# Altium schematic symbol library lib_protel_HC.SCHLIB: 494 symbols (part 3 of 4)
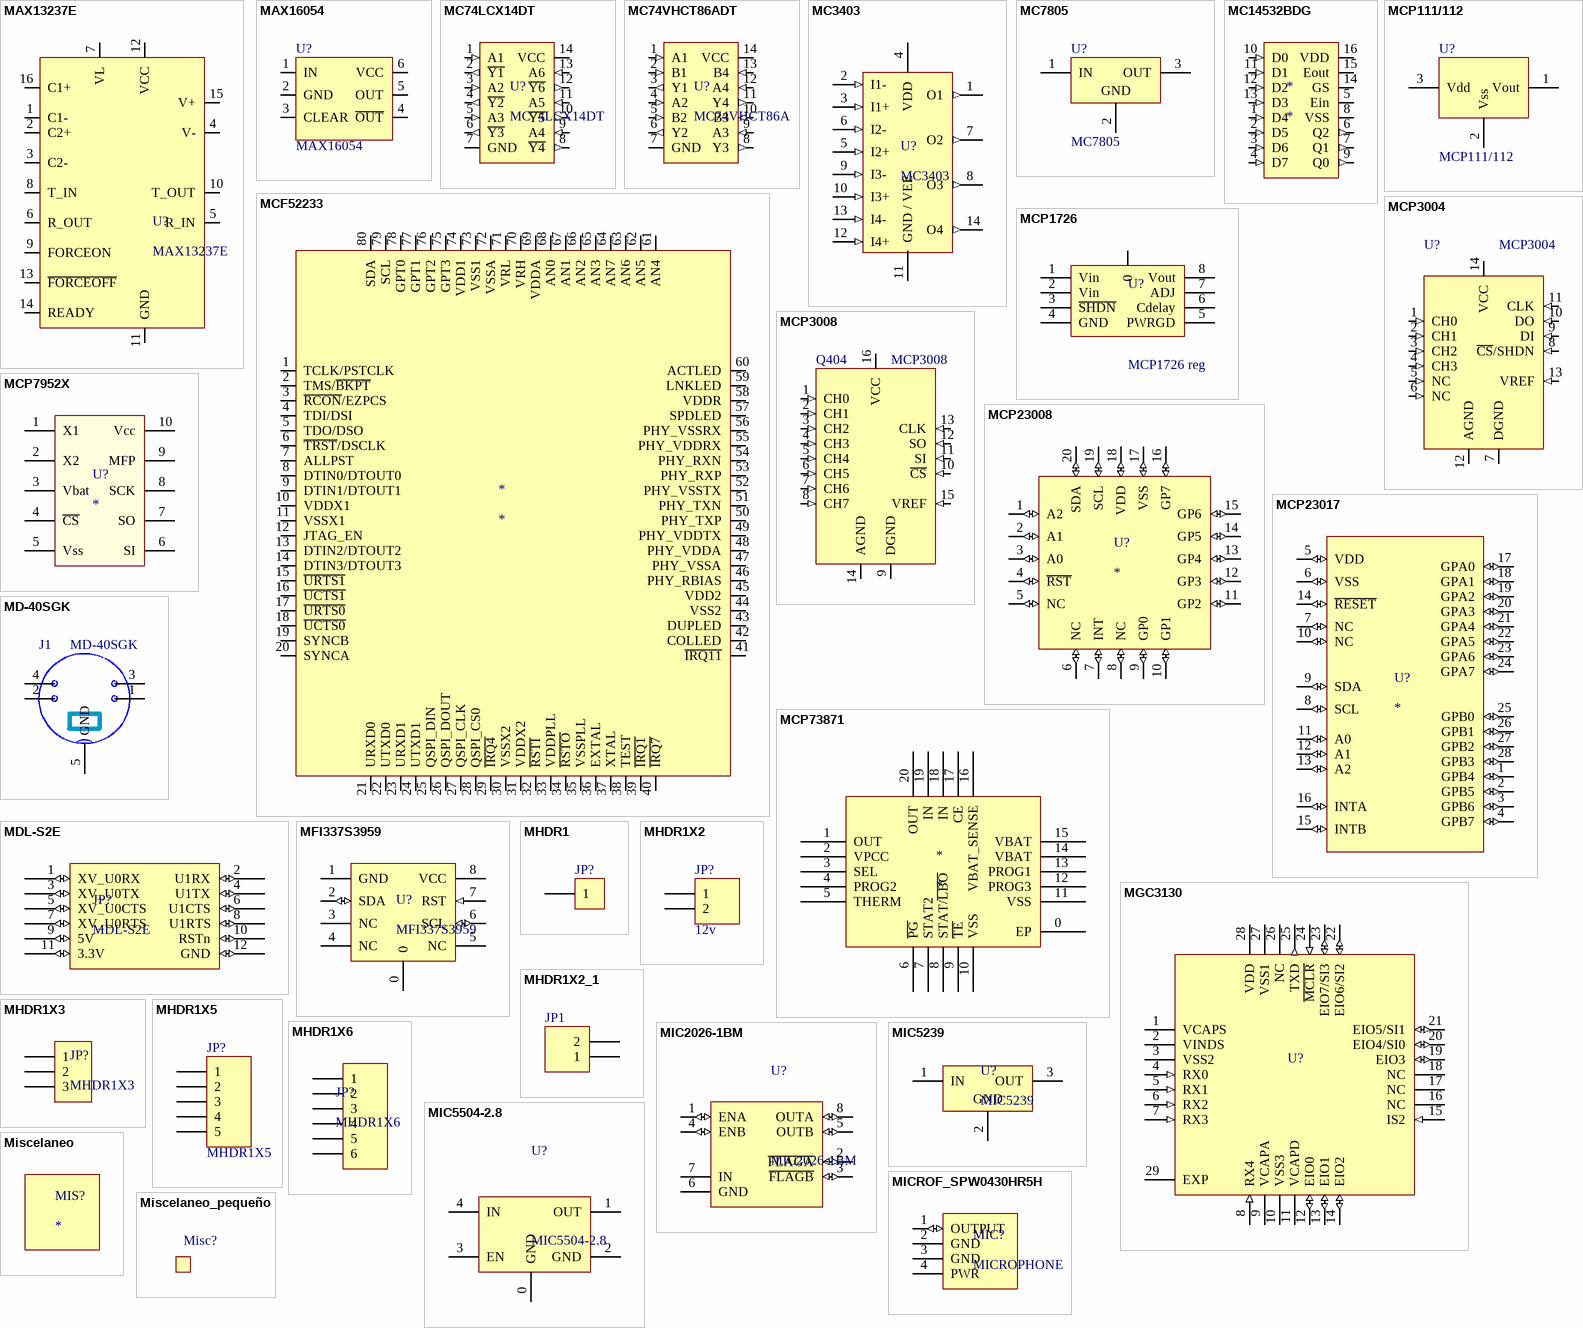
[diagram p23: symbols MAX13237E to Miscelaneo_pequeño]

## MIC5504-2.8
designator U?
LDO 2,3-5.5 to 3.0V; REF FABRICANTE: MIC5504-2.8YMT; FABRICANTE: MICREL; CÓDIGO FARNELL: *; CÓDIGO MOUSER: *; CODIGO DIGIKEY: 576-4307-1-ND; DISTRIBUIDOR 1: *; DISTRIBUIDOR 2: *
pins: 0 GND (power), 1 OUT, 2 GND (power), 3 EN, 4 IN

## MICROF_SPW0430HR5H
designator MIC?, comment MICROPHONE
CODIGO DIGIKEY: *; CODIGO MOUSER: *; CODIGO FARNELL: *; CODIGO PRODUCTO: *; DISTRIBUIDOR 1: *; DISTRIBUIDOR 2: *; FABRICANTE: *
pins: 1 OUTPUT (io), 2 GND (power), 3 GND (power), 4 PWR (power)

## Miscelaneo
designator MIS?
CODIGO DIGIKEY: *; CODIGO FARNELL: *; CODIGO MOUSER: *; REF_FABRICANTE: *; DISTRIBUIDOR1: *; DISTRIBUIDOR2: *; FABRICANTE: *; ComponentLink1Description: *; ComponentLink1URL: *

## Miscelaneo_pequeño
designator Misc?  (value not drawn)
CODIGO DIGIKEY: *; CODIGO FARNELL: *; CODIGO MOUSER: *; REF_FABRICANTE: *; DISTRIBUIDOR1: *; DISTRIBUIDOR2: *; FABRICANTE: *; ComponentLink1Description: *; ComponentLink1URL: *

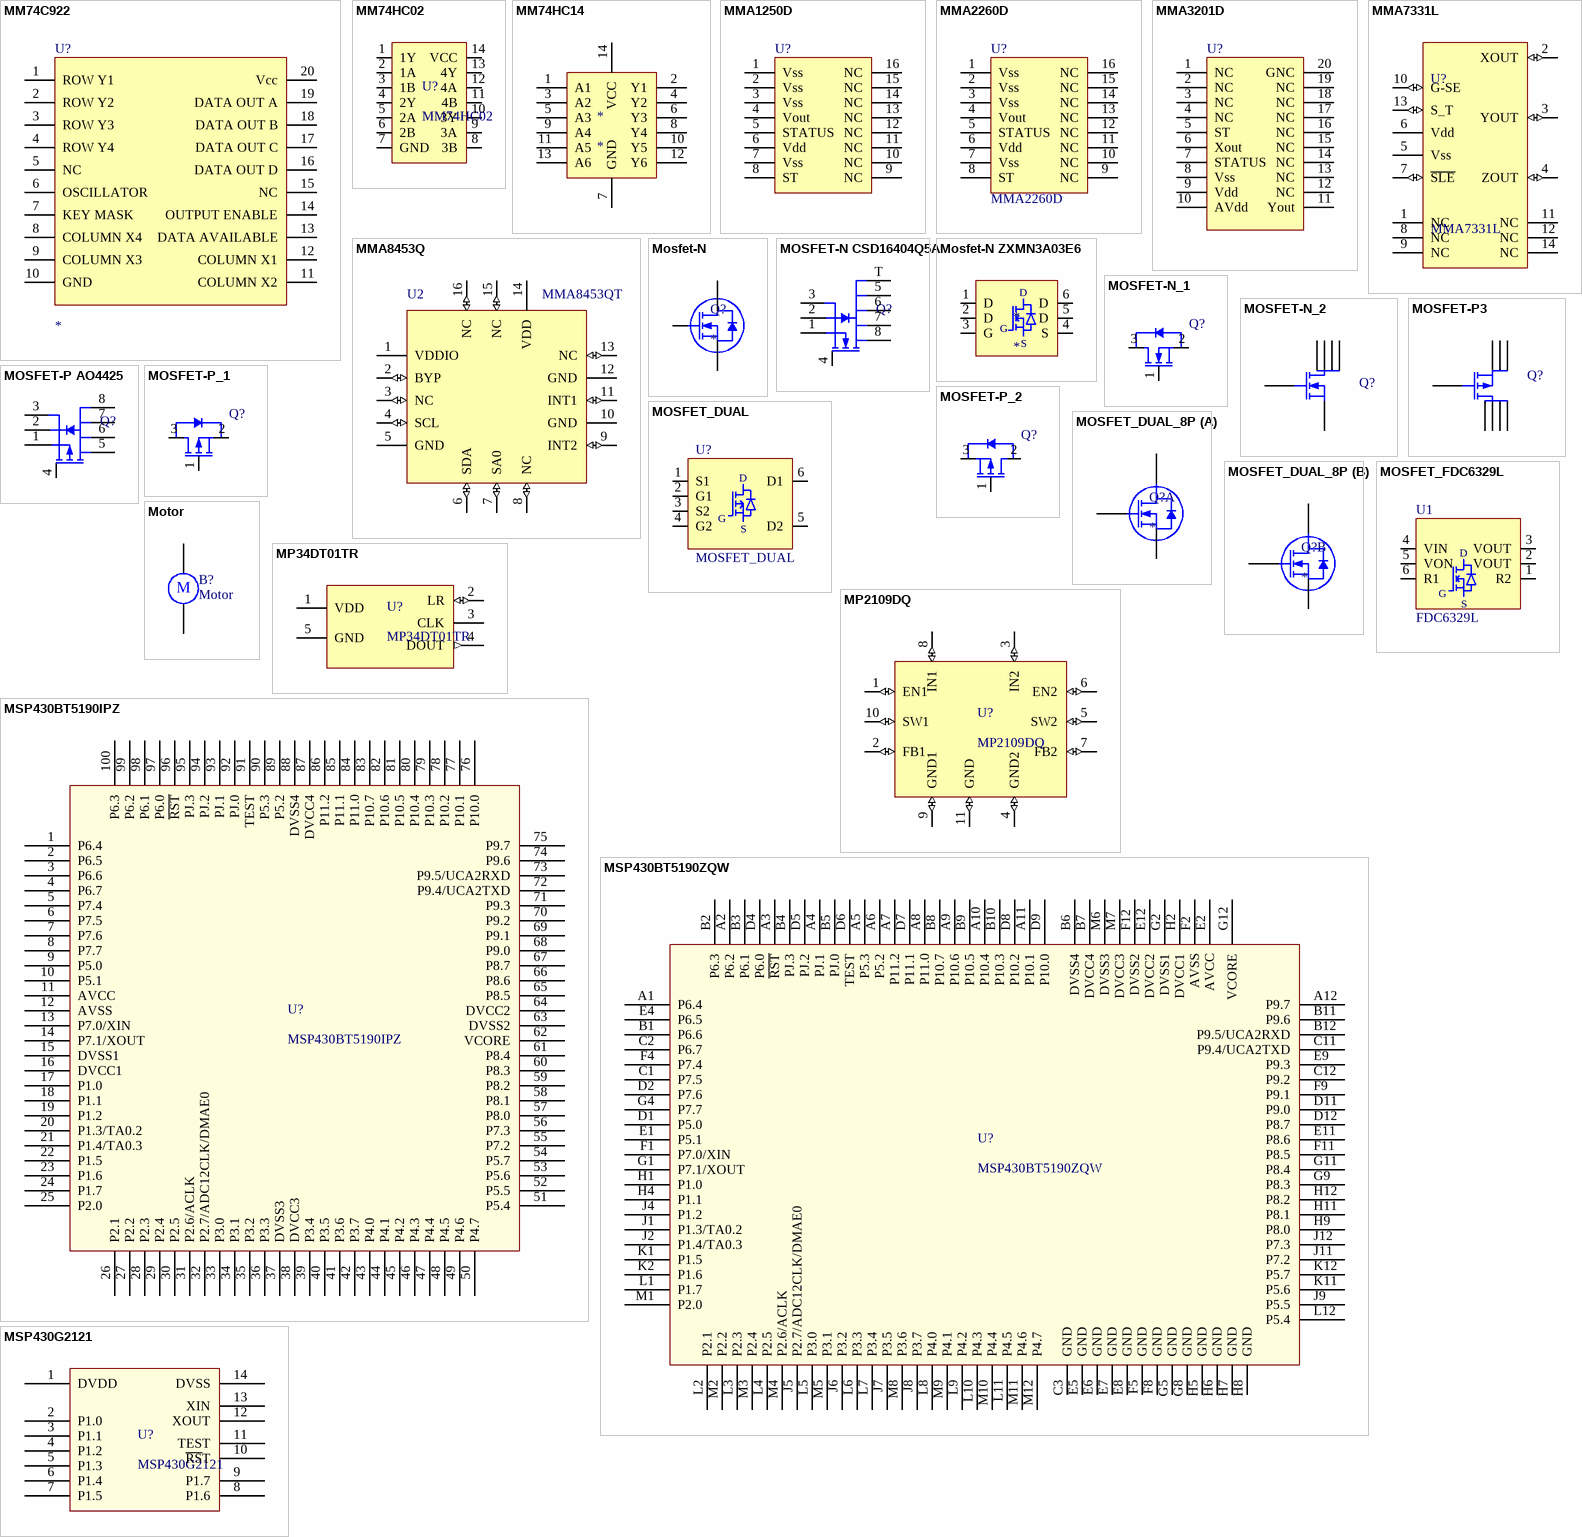
[diagram p12: symbols MM74C922 to MSP430G2121]

## MM74C922
designator U?
REF FARNELL: *
pins: 1 ROW Y1, 2 ROW Y2, 3 ROW Y3, 4 ROW Y4, 5 NC, 6 OSCILLATOR, 7 KEY MASK, 8 COLUMN X4, 9 COLUMN X3, 10 GND, 11 COLUMN X2, 12 COLUMN X1, 13 DATA AVAILABLE, 14 OUTPUT ENABLE, 15 NC, 16 DATA OUT D, 17 DATA OUT C, 18 DATA OUT B, 19 DATA OUT A, 20 Vcc

## MM74HC02
designator U?
Gate NOR 4 Outputs 2 Inputs; REF FABRICANTE: MM74HC02MX; REF. DIGIKEY: MM74HC02MXTR-ND
footprint SOIC-14
pins: 1 1Y, 2 1A, 3 1B, 4 2Y, 5 2A, 6 2B, 7 GND, 8 3B, 9 3A, 10 3Y, 11 4B, 12 4A, 13 4Y, 14 VCC

## MM74HC14
designator *
CODIGO FARNELL: *; PRECIO FARNELL: *
pins: 1 A1, 2 Y1, 3 A2, 4 Y2, 5 A3, 6 Y3, 7 GND, 8 Y4, 9 A4, 10 Y5, 11 A5, 12 Y6, 13 A6, 14 VCC

## MMA1250D
designator U?
pins: 1 Vss, 2 Vss, 3 Vss, 4 Vout, 5 STATUS, 6 Vdd, 7 Vss, 8 ST, 9 NC, 10 NC, 11 NC, 12 NC, 13 NC, 14 NC, 15 NC, 16 NC

## MMA2260D
designator U?
footprint MMA1250D (ACELERÓMETRO Z 5g)
pins: 1 Vss, 2 Vss, 3 Vss, 4 Vout, 5 STATUS, 6 Vdd, 7 Vss, 8 ST, 9 NC, 10 NC, 11 NC, 12 NC, 13 NC, 14 NC, 15 NC, 16 NC

## MMA3201D
designator U?
pins: 1 NC, 2 NC, 3 NC, 4 NC, 5 ST, 6 Xout, 7 STATUS, 8 Vss, 9 Vdd, 10 AVdd, 11 Yout, 12 NC, 13 NC, 14 NC, 15 NC, 16 NC, 17 NC, 18 NC, 19 NC, 20 GNC

## MMA7331L
designator U?
CODIGO PRODUCTO: MMA7331LT
footprint MMA7331L (ACELERÓMETRO 3 EJES MMA7331L)
pins: 1 NC, 2 XOUT (io), 3 YOUT (io), 4 ZOUT (io), 5 Vss (power), 6 Vdd (power), 7 ~{SLE} (io), 8 NC, 9 NC, 10 G-SE (io), 11 NC, 12 NC, 13 S_T (io), 14 NC

## MMA8453Q
designator U2, comment MMA8453QT
FABRICANTE: FREESCALE; DISTRIBUIDOR: FREESCALE; PRECIO 1: *; PRECIO 1000: *
footprint QFN-COL-16 (ACCELER_MMA8453Q)
footprint QFN-COL-16 (ACCELER_MMA8453Q)
pins: 1 VDDIO (power), 2 BYP (io), 3 NC (io), 4 SCL (io), 5 GND (power), 6 SDA (io), 7 SA0 (io), 8 NC (io), 9 INT2 (io), 10 GND (power), 11 INT1 (io), 12 GND (power), 13 NC (io), 14 VDD (power), 15 NC (io), 16 NC (io)

## Mosfet-N
designator Q?
Mosfet N-channel with diode; CODIGO DIGIKEY: *; CODIGO FARNELL: *; CODIGO MOUSER: *; DISTRIBUIDOR 1: *; DISTRIBUIDOR 2: *; FABRICANTE: *; REF_FABRICANTE: *; Rds On @ Vgs, Ids: *; ENCAPSULADO: *; Vdss: *; Vgs(th)@Id: *
pins: 1 G, 2 S, 3 D

## MOSFET-N CSD16404Q5A
designator Q?, comment CSD16404Q5A  (value not drawn)
N-Channel Power MOSFET; Note: Pin 2 is electrically connected to pin 4.; Published: 8-Jun-2000; LatestRevisionDate: 17-Jul-2002; LatestRevisionNote: Re-released for DXP Platform.; Publisher: Altium Limited; ComponentLink1Description: Manufacturer Link; FABRICANTE: *; PROVEEDOR: *; CODIGO FABRICANTE: *; CODIGO DIGIKEY: *; CODIGO FARNELL: *; DISTRIBUIDOR 1: *; DISTRIBUIDOR 2: *; CODIGO MOUSER: *
pins: 1 S (power), 2 S (power), 3 S (power), 4 G, 5 D (power), 6 D (power), 7 D (power), 8 D (power), T D (power)

## Mosfet-N ZXMN3A03E6
designator *
pins: 1 D, 2 D, 3 G, 4 S, 5 D, 6 D

## MOSFET-N_1
designator Q?, comment SI412  (value not drawn)
P-Channel Power MOSFET; Note: Pin 2 is electrically connected to pin 4.; Published: 8-Jun-2000; LatestRevisionDate: 17-Jul-2002; LatestRevisionNote: Re-released for DXP Platform.; Publisher: Altium Limited; ComponentLink1Description: Manufacturer Link; FABRICANTE: *; PROVEEDOR: *; CODIGO FABRICANTE: *; CODIGO DIGIKEY: *; CODIGO FARNELL: *; DISTRIBUIDOR 1: *; DISTRIBUIDOR 2: *; CODIGO MOUSER: *
pins: 1 G, 2 (power), 3 (power)

## MOSFET-N_2
designator Q?
N-Channel MOSFET; CODIGO MOUSER: *; CODIGO FARNELL: *; DISTRIBUIDOR 2: *
pins: 1 D, 2 D, 3 G, 4 S, 5 D, 6 D

## MOSFET-P3
designator Q?
P-Channel MOSFET; CODIGO FARNELL: *; CODIGO MOUSER: *; PROVEEDOR 2: *
pins: 1 S, 2 S, 3 S, 4 G, 5 D, 6 D, 7 D, 8 D

## MOSFET-P AO4425
designator Q?
P Channel Power MOSFET; Note: Pin 2 is electrically connected to pin 4.; Published: 8-Jun-2000; LatestRevisionDate: 17-Jul-2002; LatestRevisionNote: Re-released for DXP Platform.; Publisher: Altium Limited; ComponentLink1Description: Manufacturer Link; FABRICANTE: *; PROVEEDOR: *; CODIGO_FABRICANTE: *; CODIGO_DIGIKEY: *; CODIGO FARNELL: *; DISTRIBUIDOR 1: *; DISTRIBUIDOR 2: *; CODIGO MOUSER: *
pins: 1 S (power), 2 S (power), 3 S (power), 4 G, 5 D (power), 6 F (power), 7 8 (power), 8 D (power)

## MOSFET-P_1
designator Q?  (value not drawn)
P-Channel Power MOSFET; Note: Pin 2 is electrically connected to pin 4.; Published: 8-Jun-2000; LatestRevisionDate: 17-Jul-2002; LatestRevisionNote: Re-released for DXP Platform.; PackageReference: TO-220AB; Publisher: Altium Limited; ComponentLink1Description: Manufacturer Link; ComponentLink1URL: http://www.irf.com/; FABRICANTE: *; PROVEEDOR: *; CODIGO FABRICANTE: *; CODIGO DIGIKEY: *; CODIGO FARNELL: *; DISTRIBUIDOR 1: *; DISTRIBUIDOR 2: *; CODIGO MOUSER: *
pins: 1 G, 2 (power), 3 (power)

## MOSFET-P_2
designator Q?  (value not drawn)
P-Channel Power MOSFET; Note: Pin 2 is electrically connected to pin 4.; Published: 8-Jun-2000; LatestRevisionDate: 17-Jul-2002; LatestRevisionNote: Re-released for DXP Platform.; PackageReference: TO-220AB; Publisher: Altium Limited; ComponentLink1Description: Manufacturer Link; ComponentLink1URL: http://www.irf.com/; FABRICANTE: *; PROVEEDOR: *; CODIGO FABRICANTE: *; CODIGO DIGIKEY: *; CODIGO FARNELL: *; DISTRIBUIDOR 1: *; DISTRIBUIDOR 2: *; CODIGO MOUSER: *
pins: 1 G, 2 (power), 3 (power)

## MOSFET_DUAL
designator U?
pins: 1 S1, 2 G1, 3 S2, 4 G2, 5 D2, 6 D1
text: D; G; S

## MOSFET_DUAL_8P
designator Q?
Mosfet-N-2Channel; CODIGO DIGIKEY: *; CODIGO FARNELL: *; CODIGO MOUSER: *; REF_FABRICANTE: *; FABRICANTE: *; DISTRIBUIDOR 1: *; DISTRIBUIDOR 2: *; ComponentLink1Description: *; ComponentLink1URL: *; Rds On @ Vgs, Ids: *; Vgs(th)@Id: *; Vdss: *
part A pins: 1 S, 2 G, 6 D
part B pins: 3 S, 4 G, 5 D

## MOSFET_FDC6329L
designator U1, comment FDC6329L
FABRICANTE: FAIRCHILD; CODIGO DIGIKEY: FDC6329LCT-ND; CODIGO FARNELL: 1652469; PRECIO DIGIKEY 1: 0.53; PRECIO DIGIKEY 100: 0.3635; PRECIO DIGIKEY 1000: 0.21202; PRECIO DIGIKEY 3000: 0.17538; PRECIO FARNELL 1: 0.74; PRECIO FARNELL 1000: 0.24; STOCK FARNELL: 958; STOCK DIGIKEY: 2713
footprint SSOT-6
pins: 1 R2, 2 VOUT, 3 VOUT, 4 VIN, 5 VON, 6 R1
text: D; G; S

## Motor
designator B?
Motor, General Kind; Published: 24-Mar-1999; LatestRevisionDate: 17-Jul-2002; LatestRevisionNote: Re-released for DXP Platform.; PackageReference: RB5-10.5; Publisher: Altium Limited
footprint RB5-10.5 (Motor, General Kind; 2 Leads)
pins: 1, 2
text: M

## MP34DT01TR
designator U?
FABRICANTE: TI; CODIGO DIGIKEY: *; CODIGO FABRICANTE: *
pins: 1 VDD (power), 2 LR (io), 3 CLK (hiz), 4 DOUT (out), 5 GND (power)

## MP2109DQ
designator U?
FABRICANTE: *; CODIGO FABRICANTE: *; DISTRIBUIDOR: *; CODIGO DIGIKEY: *; VIN: *; VOUT: *; CORRIENTE: *; FOOTPRINT: *
pins: 1 EN1 (io), 2 FB1 (io), 3 IN2 (io), 4 GND2 (io), 5 SW2 (io), 6 EN2 (io), 7 FB2 (io), 8 IN1 (io), 9 GND1 (io), 10 SW1 (io), 11 GND (io)

## MSP430BT5190IPZ
designator U?
pins: 1 P6.4, 2 P6.5, 3 P6.6, 4 P6.7, 5 P7.4, 6 P7.5, 7 P7.6, 8 P7.7, 9 P5.0, 10 P5.1, 11 AVCC, 12 AVSS, 13 P7.0/XIN, 14 P7.1/XOUT, 15 DVSS1, 16 DVCC1, 17 P1.0, 18 P1.1, 19 P1.2, 20 P1.3/TA0.2, 21 P1.4/TA0.3, 22 P1.5, 23 P1.6, 24 P1.7, 25 P2.0, 26 P2.1, 27 P2.2, 28 P2.3, 29 P2.4, 30 P2.5, 31 P2.6/ACLK, 32 P2.7/ADC12CLK/DMAE0, 33 P3.0, 34 P3.1, 35 P3.2, 36 P3.3, 37 DVSS3, 38 DVCC3, 39 P3.4, 40 P3.5, 41 P3.6, 42 P3.7, 43 P4.0, 44 P4.1, 45 P4.2, 46 P4.3, 47 P4.4, 48 P4.5, 49 P4.6, 50 P4.7, 51 P5.4, 52 P5.5, 53 P5.6, 54 P5.7, 55 P7.2, 56 P7.3, 57 P8.0, 58 P8.1, 59 P8.2, 60 P8.3, 61 P8.4, 62 VCORE, 63 DVSS2, 64 DVCC2, 65 P8.5, 66 P8.6, 67 P8.7, 68 P9.0, 69 P9.1, 70 P9.2, 71 P9.3, 72 P9.4/UCA2TXD, 73 P9.5/UCA2RXD, 74 P9.6, 75 P9.7, 76 P10.0, 77 P10.1, 78 P10.2, 79 P10.3, 80 P10.4, 81 P10.5, 82 P10.6, 83 P10.7, 84 P11.0, 85 P11.1, 86 P11.2, 87 DVCC4, 88 DVSS4, 89 P5.2, 90 P5.3, 91 TEST, 92 PJ.0, 93 PJ.1, 94 PJ.2, 95 PJ.3, 96 ~{RST}, 97 P6.0, 98 P6.1, 99 P6.2, 100 P6.3

## MSP430BT5190ZQW
designator U?
pins: A1 P6.4, A2 P6.2, A3 ~{RST}, A4 PJ.1, A5 P5.3, A6 P5.2, A7 P11.2, A8 P11.0, A9 P10.6, A10 P10.4, A11 P10.1, A12 P9.7, B1 P6.6, B2 P6.3, B3 P6.1, B4 PJ.3, B5 PJ.0, B6 DVSS4, B7 DVCC4, B8 P10.7, B9 P10.5, B10 P10.3, B11 P9.6, B12 P9.5/UCA2RXD, C1 P7.5, C2 P6.7, C3 GND, C11 P9.4/UCA2TXD, C12 P9.2, D1 P5.0, D2 P7.6, D4 P6.0, D5 PJ.2, D6 TEST, D7 P11.1, D8 P10.2, D9 P10.0, D11 P9.0, D12 P8.7, E1 P5.1, E2 AVCC, E4 P6.5, E5 GND, E6 GND, E7 GND, E8 GND, E9 P9.3, E11 P8.6, E12 DVCC2, F1 P7.0/XIN, F2 AVSS, F4 P7.4, F5 GND, F8 GND, F9 P9.1, F11 P8.5, F12 DVSS2, G1 P7.1/XOUT, G2 DVSS1, G4 P7.7, G5 GND, G8 GND, G9 P8.3, G11 P8.4, G12 VCORE, H1 P1.0, H2 DVCC1, H4 P1.1, H5 GND, H6 GND, H7 GND, H8 GND, H9 P8.0, H11 P8.1, H12 P8.2, J1 P1.3/TA0.2, J2 P1.4/TA0.3, J4 P1.2, J5 P2.7/ADC12CLK/DMAE0, J6 P3.2, J7 P3.5, J8 P3.7, J9 P5.5, J11 P7.2, J12 P7.3, K1 P1.5, K2 P1.6, K11 P5.6, K12 P5.7, L1 P1.7, L2 P2.1, L3 P2.3, L4 P2.5, L5 P3.0, L6 P3.3, L7 P3.4, L8 P4.0, L9 P4.2, L10 P4.3, L11 P4.5, L12 P5.4, M1 P2.0, M2 P2.2, M3 P2.4, M4 P2.6/ACLK, M5 P3.1, M6 DVSS3, M7 DVCC3, M8 P3.6, M9 P4.1, M10 P4.4, M11 P4.6, M12 P4.7

## MSP430G2121
designator U?
pins: 1 DVDD, 2 P1.0, 3 P1.1, 4 P1.2, 5 P1.3, 6 P1.4, 7 P1.5, 8 P1.6, 9 P1.7, 10 ~{RS}T, 11 TEST, 12 XOUT, 13 XIN, 14 DVSS

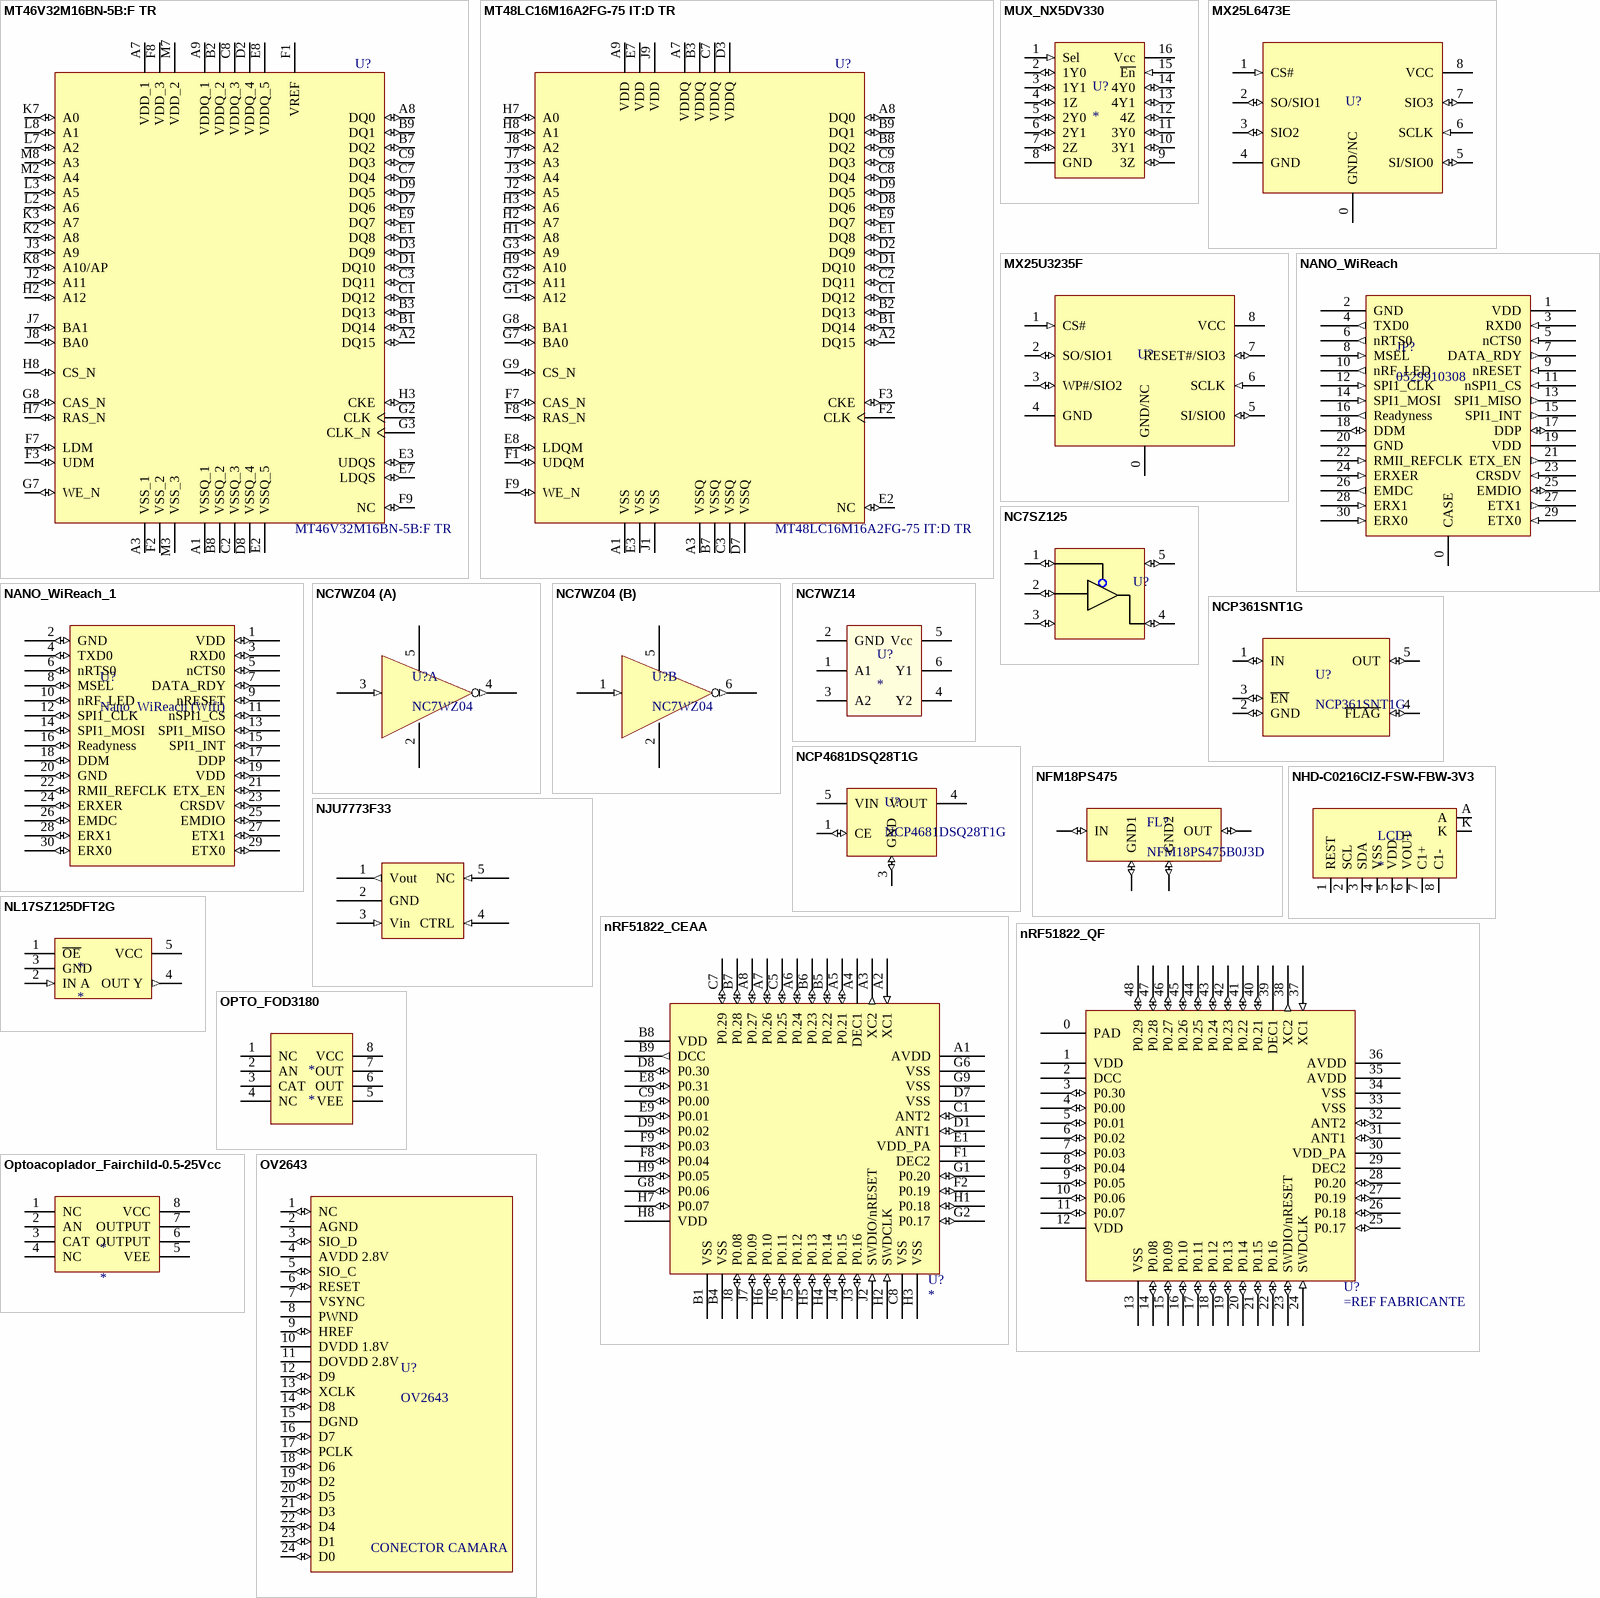
[diagram p13: symbols MT46V32M16BN-5B:F TR to OV2643]

## MT46V32M16BN-5B:F TR
designator U?
FABRICANTE: MICRON TECHNOLOGY INC.; DISTRIBUIDOR: *; CODIGO DIGIKEY: 557-1285-2-ND; PRECIO DIGIKEY: 5.15434
pins: A1 VSSQ_1 (power), A2 DQ15 (io), A3 VSS_1 (power), A7 VDD_1 (power), A8 DQ0 (io), A9 VDDQ_1 (power), B1 DQ14 (io), B2 VDDQ_2 (power), B3 DQ13 (io), B7 DQ2 (io), B8 VSSQ_2 (power), B9 DQ1 (io), C1 DQ12 (io), C2 VSSQ_3 (power), C3 DQ11 (io), C7 DQ4 (io), C8 VDDQ_3 (power), C9 DQ3 (io), D1 DQ10 (io), D2 VDDQ_4 (power), D3 DQ9 (io), D7 DQ6 (io), D8 VSSQ_4 (power), D9 DQ5 (io), E1 DQ8 (io), E2 VSSQ_5 (power), E3 UDQS (io), E7 LDQS (io), E8 VDDQ_5 (power), E9 DQ7 (io), F1 VREF (power), F2 VSS_2 (power), F3 UDM (io), F7 LDM (io), F8 VDD_3 (power), F9 NC (io), G2 CLK, G3 CLK_N, G7 WE_N (io), G8 CAS_N (io), H2 A12 (io), H3 CKE (io), H7 RAS_N (io), H8 CS_N (io), J2 A11 (io), J3 A9 (io), J7 BA1 (io), J8 BA0 (io), K2 A8 (io), K3 A7 (io), K7 A0 (io), K8 A10/AP (io), L2 A6 (io), L3 A5 (io), L7 A2 (io), L8 A1 (io), M2 A4 (io), M3 VSS_3 (power), M7 VDD_2 (power), M8 A3 (io)

## MT48LC16M16A2FG-75 IT:D TR
designator U?
FABRICANTE: MICRON TECHNOLOGY INC.; DISTRIBUIDOR: *; CODIGO DIGIKEY: 557-1056-1-ND; PRECIO DIGIKEY 1: 8.75
footprint FBGA-54 (FBGA para MEMORIA SDRAM 256 MICRON)
pins: A1 VSS (power), A2 DQ15 (io), A3 VSSQ (power), A7 VDDQ (power), A8 DQ0 (io), A9 VDD (power), B1 DQ14 (io), B2 DQ13 (io), B3 VDDQ (power), B7 VSSQ (power), B8 DQ2 (io), B9 DQ1 (io), C1 DQ12 (io), C2 DQ11 (io), C3 VSSQ (power), C7 VDDQ (power), C8 DQ4 (io), C9 DQ3 (io), D1 DQ10 (io), D2 DQ9 (io), D3 VDDQ (power), D7 VSSQ (power), D8 DQ6 (io), D9 DQ5 (io), E1 DQ8 (io), E2 NC (io), E3 VSS (power), E7 VDD (power), E8 LDQM (io), E9 DQ7 (io), F1 UDQM (io), F2 CLK, F3 CKE (io), F7 CAS_N (io), F8 RAS_N (io), F9 WE_N (io), G1 A12 (io), G2 A11 (io), G3 A9 (io), G7 BA0 (io), G8 BA1 (io), G9 CS_N (io), H1 A8 (io), H2 A7 (io), H3 A6 (io), H7 A0 (io), H8 A1 (io), H9 A10 (io), J1 VSS (power), J2 A5 (io), J3 A4 (io), J7 A3 (io), J8 A2 (io), J9 VDD (power)

## MUX_NX5DV330
designator U?
Multiplexor - demultiplexor video 8<->4; CODIGO DIGIKEY: *; CODIGO MOUSER: *; CODIGO FARNELL: *; DISTRIBUIDOR 1: *; DISTIRBUIDOR 2: *; ComponentLink1URL: *; ComponentLink1Description: *; FABRICANTE: *; REF_FABRICANTE: *
pins: 1 Sel (in), 2 1Y0 (io), 3 1Y1 (io), 4 1Z (io), 5 2Y0 (io), 6 2Y1 (io), 7 2Z (io), 8 GND (power), 9 3Z (io), 10 3Y1 (io), 11 3Y0 (io), 12 4Z (io), 13 4Y1 (io), 14 4Y0 (io), 15 ~{En} (in), 16 Vcc (power)

## MX25L6473E
designator U?  (value not drawn)
64MB FLASH MEMORY - 2.7-3.6V - SPI Serial; CODIGO DIGIKEY: *; CODIGO FARNELL: *; CODIGO MOUSER: *; FABRICANTE: *; REF_FABRICANTE: *; DISTRIBUIDOR 1: *; DISTRIBUIDOR 2: *; ComponentLink1URL: *; ComponentLink1Description: *
pins: 0 GND/NC (power), 1 CS# (in), 2 SO/SIO1 (io), 3 SIO2 (io), 4 GND (power), 5 SI/SIO0 (io), 6 SCLK (in), 7 SIO3 (io), 8 VCC (power)

## MX25U3235F
designator U?  (value not drawn)
32MB FLASH MEMORY -  1.65V~2V - SPI Serial; CODIGO DIGIKEY: *; CODIGO FARNELL: *; CODIGO MOUSER: *; FABRICANTE: *; REF_FABRICANTE: *; DISTRIBUIDOR 1: *; DISTRIBUIDOR 2: *; ComponentLink1URL: *; ComponentLink1Description: *
pins: 0 GND/NC (power), 1 CS# (in), 2 SO/SIO1 (io), 3 WP#/SIO2 (io), 4 GND (power), 5 SI/SIO0 (io), 6 SCLK (in), 7 RESET#/SIO3 (io), 8 VCC (power)

## NANO_WiReach
designator JP?, comment 0529910308
Conector 30 Pos para módulo WI-FI Nano_WiReach; FABRICANTE: Molex; CODIGO DIGIKEY: *; CODIGO FARNELL: *; DISTRIBUIDOR 1: *; REF_FABRICANTE: 0529910308; CODIGO MOUSER: *; DISTRIBUIDOR 2: *; ComponentLink1Description: *; ComponentLink1URL: *
footprint CONECTOR 30 pines WIFI (Conector para Nano WiReach)
pins: 0 CASE, 1 VDD (power), 2 GND (power), 3 RXD0 (in), 4 TXD0 (out), 5 nCTS0 (in), 6 nRTS0 (out), 7 DATA_RDY (out), 8 MSEL (in), 9 nRESET (in), 10 nRF_LED (out), 11 nSPI1_CS (in), 12 SPI1_CLK (in), 13 SPI1_MISO (out), 14 SPI1_MOSI (in), 15 SPI1_INT (out), 16 Readyness (out), 17 DDP (io), 18 DDM (io), 19 VDD (power), 20 GND (power), 21 ETX_EN (out), 22 RMII_REFCLK (in), 23 CRSDV (in), 24 ERXER (in), 25 EMDIO (io), 26 EMDC (out), 27 ETX1 (out), 28 ERX1 (in), 29 ETX0 (in), 30 ERX0 (in)

## NANO_WiReach_1
designator U?, comment Nano_WiReach (Wifi)
CODIGO DIGIKEY: *; CODIGO FARNELL: *; DISTRIBUIDOR: *; PRECIO DIGIKEY: *; CODIGO MOUSER: *; FABRICANTE: *
pins: 1 VDD (io), 2 GND (io), 3 RXD0 (io), 4 TXD0 (io), 5 nCTS0 (io), 6 nRTS0 (io), 7 DATA_RDY (io), 8 MSEL (io), 9 nRESET (io), 10 nRF_LED (io), 11 nSPI1_CS (io), 12 SPI1_CLK (io), 13 SPI1_MISO (io), 14 SPI1_MOSI (io), 15 SPI1_INT (io), 16 Readyness (io), 17 DDP (io), 18 DDM (io), 19 VDD (io), 20 GND (io), 21 ETX_EN (io), 22 RMII_REFCLK (io), 23 CRSDV (io), 24 ERXER (io), 25 EMDIO (io), 26 EMDC (io), 27 ETX1 (io), 28 ERX1 (io), 29 ETX0 (io), 30 ERX0 (io)

## NC7SZ125
designator U?
NC7SZ125; CODIGO FARNELL: *; CODIGO MOUSER: *; PROVEEDOR 2: *
pins: 1 (io), 2 (io), 3 (io), 4 (io), 5 (io)

## NC7WZ04
designator U?
Inversor dual; CODIGO FARNELL: *; CODIGO DIGIKEY: *; CODIGO MOUSER: *; DISTRIBUIDOR 1: *; DISTRIBUIDOR 2: *; ComponentLink1Description: *; ComponentLink1URL: *; FABRICANTE: *; REF_FABRICANTE: *
part A pins: 2 (power), 3 (in), 4 (out), 5 (power)
part B pins: 1 (in), 2 (power), 5 (power), 6 (out)

## NC7WZ14
designator U?
CODIGO DIGIKEY: *; CODIGO MOUSER: *; CODIGO FARNELL: *; FABRICANTE: *; REF_FABRICANTE: *; DSITRIBUIDOR1: *; DISTRIBUIDOR2: *
pins: 1 A1, 2 GND, 3 A2, 4 Y2, 5 Vcc, 6 Y1

## NCP361SNT1G
designator U?
CLASS: USB POSITIVE OVERVOLTAGE PROTECTION CONTROLLER; FABRICANTE: *; CODIGO DIGIKEY: *; CODIGO FABRICANTE: *; FOOTPRINT: *
pins: 1 IN (io), 2 GND (io), 3 ~{EN} (io), 4 ~{FLAG} (io), 5 OUT (io)

## NCP4681DSQ28T1G
designator U?
FABRICANTE: ON SEMI; CODIGO DIGIKEY: P4681DSQ28T1GOSTR-ND; CODIGO PRODUCTO: NCP4681DSQ28T1G
footprint SOT-353
pins: 1 CE (io), 3 GND (io), 4 VOUT (power), 5 VIN (power)

## NFM18PS475
designator FL?, comment NFM18PS475B0J3D
FABRICANTE: *; CODIGO FABRICANTE: *; DISTRIBUIDOR: *; CODIGO DIGIKEY: *; FOOTPRINT: *; CORRIENTE: *
pins: ?1 IN (io), ?2 GND1 (io), ?3 GND2 (io), ?4 OUT (io)

## NHD-C0216CIZ-FSW-FBW-3V3
designator LCD?
CODIGO DIGIKEY: NHD-C0216CIZ-FSW-FBW-3V3-ND; PRECIO DIGIKEY 1: *
footprint NHD-C0216CIZ-FSW-FBW-3V3 (DISPLAY I2C)
pins: 1 REST, 2 SCL, 3 SDA, 4 VSS, 5 VDD, 6 VOUT, 7 C1+, 8 C1-, A, K

## NJU7773F33
designator U?
Series 3-Terminal Positive Regulator; Manufacturer: National Semiconductor; Package Information: Latest Revision: 1995; Class I: Power Management; Class II: Voltage Regulator; Published: 15-Apr-2002; Datasheet: Latest Revision: May-1999; Publisher: Altium Limited; PRECIO FARNELL: *; CODIGO FARNELL: *; CODIGO DIGIKEY: *; CODIGO MOUSER: *
pins: 1 Vout (out), 2 GND, 3 Vin (in), 4 CTRL (in), 5 NC (in)

## NL17SZ125DFT2G
designator *
pins: 1 ~{OE}, 2 IN A (in), 3 GND, 4 OUT Y (out), 5 VCC

## nRF51822_CEAA
designator U?
Multi-protocol Bluetooth Low Energy and 2.4GHz proprietary system-on-chip; REF FABRICANTE: *; CODIGO FARNELL: *; CODIGO MOUSER: *; CODIGO DIGIKEY: *; FABRICANTE: *; DISTRIBUIDOR 1: *; DISTRIBUIDOR 2: *; ComponentLink1URL: *; ComponentLink1Description: *
pins: A1 AVDD (power), A2 XC1 (in), A3 XC2 (out), A4 DEC1 (power), A5 P0.21 (io), A6 P0.24 (io), A7 P0.26 (io), A8 P0.27 (io), B1 VSS (power), B4 VSS (power), B5 P0.22 (io), B6 P0.23 (io), B7 P0.28 (io), B8 VDD (power), B9 DCC (out), C1 ANT2 (io), C5 P0.25 (io), C6 N.C. (io) hidden, C7 P0.29 (io), C8 VSS (power), C9 P0.00 (io), D1 ANT1 (io), D7 VSS (power), D8 P0.30 (io), D9 P0.02 (io), E1 VDD_PA (power), E2 N.C. (io) hidden, E3 N.C. (io) hidden, E7 N.C. (io) hidden, E8 P0.31 (io), E9 P0.01 (io), F1 DEC2 (power), F2 P0.19 (io), F3 N.C. (io) hidden, F7 N.C. (io) hidden, F8 P0.04 (io), F9 P0.03 (io), G1 P0.20 (io), G2 P0.17 (io), G3 N.C. hidden to GND, G4 N.C. hidden to GND, G5 N.C. (io) hidden, G6 VSS (power), G7 N.C. (io) hidden, G8 P0.06 (io), G9 VSS (power), H1 P0.18 (io), H2 SWDCLK (in), H3 VSS (power), H4 P0.14 (io), H5 P0.13 (io), H6 P0.10 (io), H7 P0.07 (io), H8 VDD (power), H9 P0.05 (io), J2 SWDIO/nRESET (in), J3 P0.16 (io), J4 P0.15 (io), J5 P0.12 (io), J6 P0.11 (io), J7 P0.09 (io), J8 P0.08 (io)

## nRF51822_QF
designator U?
Multi-protocol Bluetooth Low Energy and 2.4GHz proprietary system-on-chip; REF_FABRICANTE: *; CODIGO FARNELL: *; CODIGO MOUSER: *; CODIGO DIGIKEY: *; FABRICANTE: *; DISTRIBUIDOR 1: *; DISTRIBUIDOR 2: *; ComponentLink1URL: *; ComponentLink1Description: *
pins: 0 PAD (power), 1 VDD (power), 2 DCC (power), 3 P0.30 (io), 4 P0.00 (io), 5 P0.01 (io), 6 P0.02 (io), 7 P0.03 (io), 8 P0.04 (io), 9 P0.05 (io), 10 P0.06 (io), 11 P0.07 (io), 12 VDD (power), 13 VSS (power), 14 P0.08 (io), 15 P0.09 (io), 16 P0.10 (io), 17 P0.11 (io), 18 P0.12 (io), 19 P0.13 (io), 20 P0.14 (io), 21 P0.15 (io), 22 P0.16 (io), 23 SWDIO/nRESET (io), 24 SWDCLK (in), 25 P0.17 (io), 26 P0.18 (io), 27 P0.19 (io), 28 P0.20 (io), 29 DEC2 (power), 30 VDD_PA (power), 31 ANT1 (io), 32 ANT2 (io), 33 VSS (power), 34 VSS (power), 35 AVDD (power), 36 AVDD (power), 37 XC1 (in), 38 XC2 (out), 39 DEC1 (power), 40 P0.21 (io), 41 P0.22 (io), 42 P0.23 (io), 43 P0.24 (io), 44 P0.25 (io), 45 P0.26 (io), 46 P0.27 (io), 47 P0.28 (io), 48 P0.29 (io)

## OPTO_FOD3180
designator *
pins: 1 NC, 2 AN, 3 CAT, 4 NC, 5 VEE, 6 OUT, 7 OUT, 8 VCC

## Optoacoplador_Fairchild-0.5-25Vcc
designator *
CODIGO FARNELL: *; PRECIO FARNELL: *
pins: 1 NC, 2 AN, 3 CAT, 4 NC, 5 VEE, 6 OUTPUT, 7 OUTPUT, 8 VCC

## OV2643
designator U?
CODIGO FABRICANTE: *
pins: 1 NC (io), 2 AGND (power), 3 SIO_D (io), 4 AVDD 2.8V (power), 5 SIO_C (io), 6 RESET (io), 7 VSYNC (power), 8 PWND (power), 9 HREF (io), 10 DVDD 1.8V (power), 11 DOVDD 2.8V (power), 12 D9 (io), 13 XCLK (io), 14 D8 (io), 15 DGND (power), 16 D7 (io), 17 PCLK (io), 18 D6 (io), 19 D2 (io), 20 D5 (io), 21 D3 (io), 22 D4 (io), 23 D1 (io), 24 D0 (io)
text: CONECTOR CAMARA

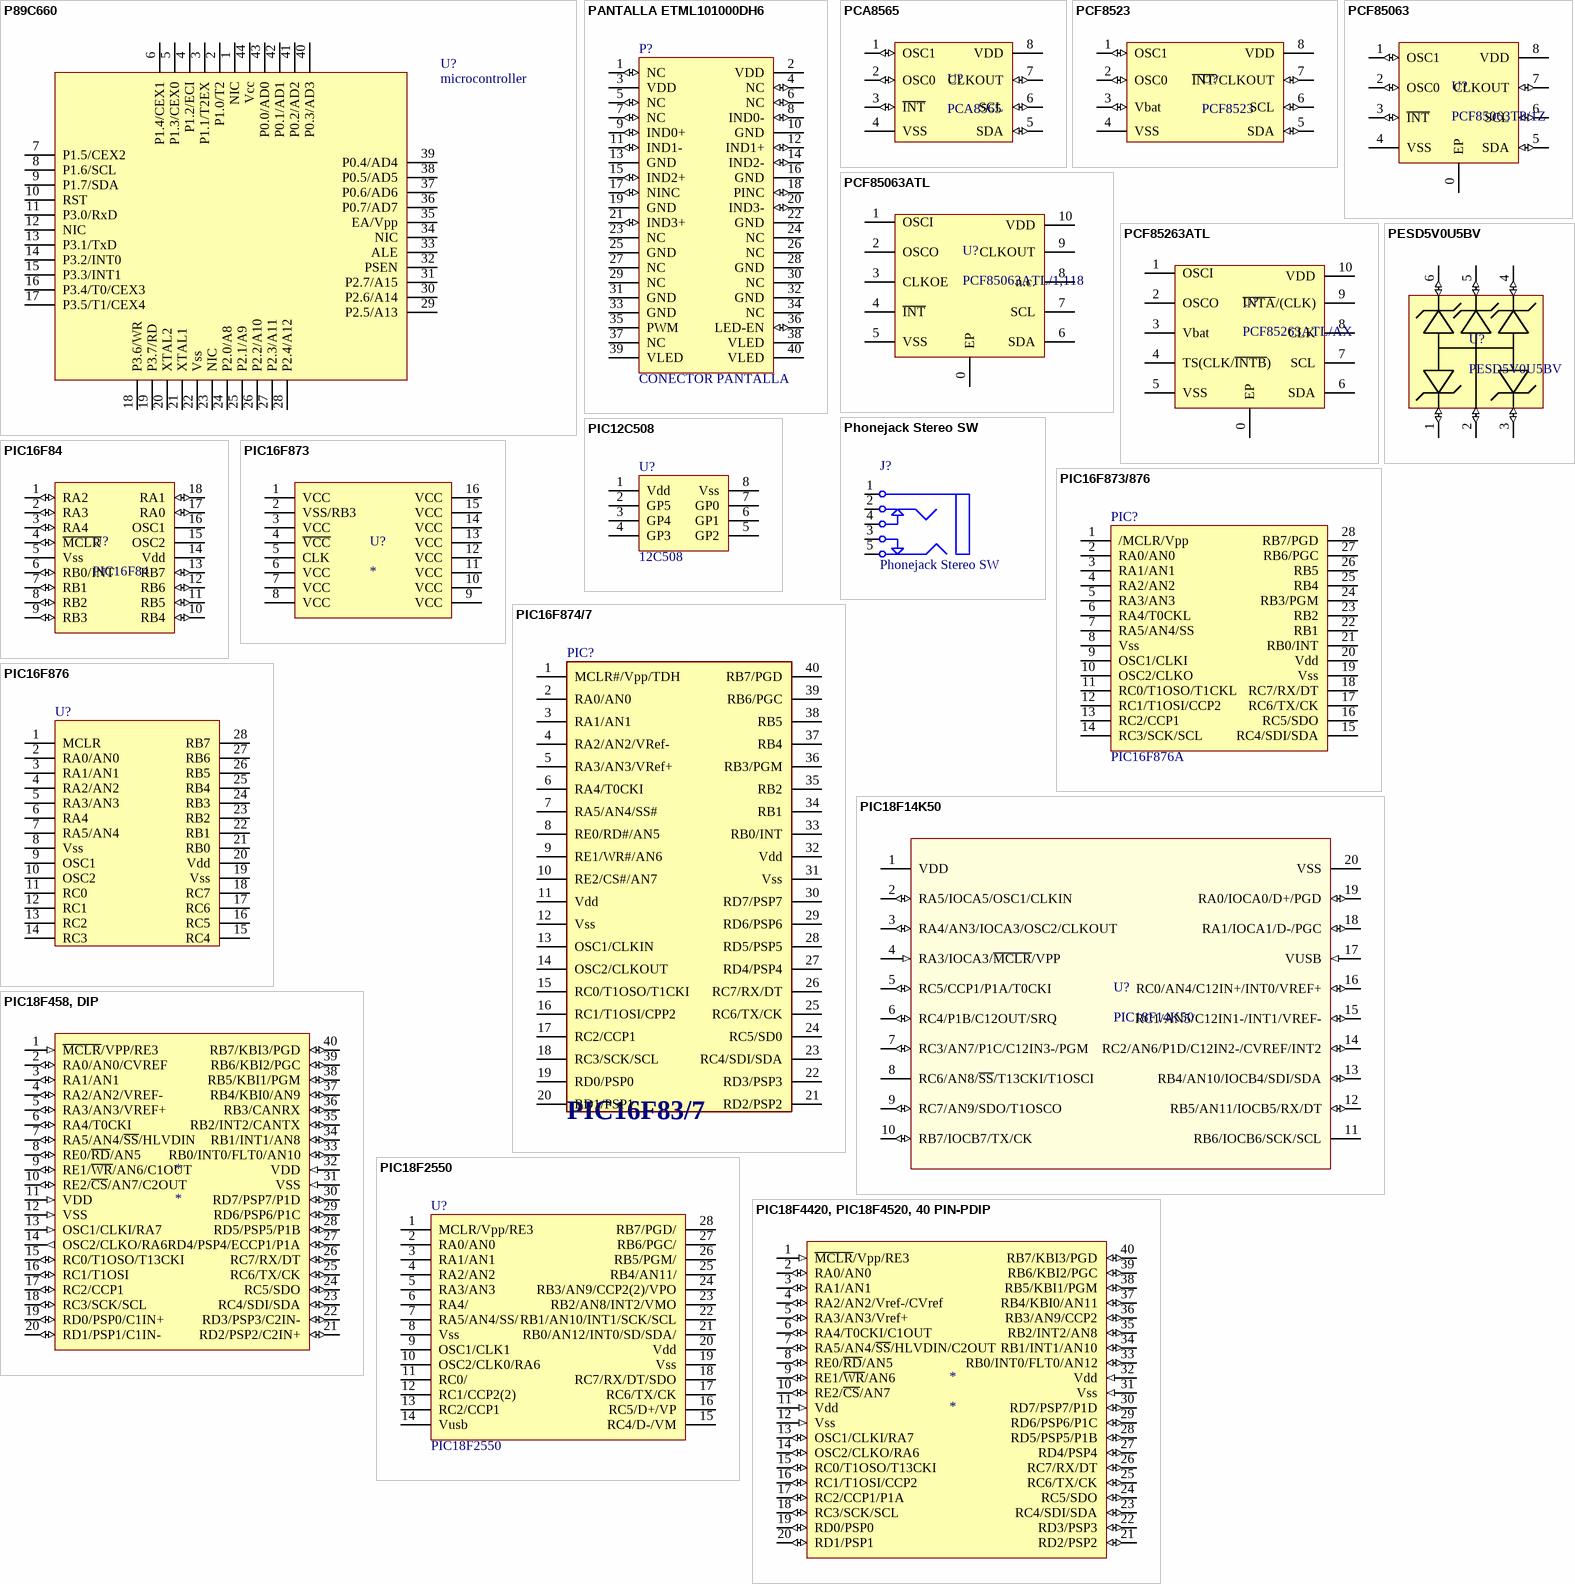
[diagram p14: symbols P89C660 to PIC18F4420, PIC18F4520, 40 PIN-PDIP]

## P89C660
designator U?, comment microcontroller
microcontroller philips 8 bits
footprint Model Name (Model Description)
pins: 1 NIC, 2 P1.0/T2, 3 P1.1/T2EX, 4 P1.2/ECI, 5 P1.3/CEX0, 6 P1.4/CEX1, 7 P1.5/CEX2, 8 P1.6/SCL, 9 P1.7/SDA, 10 RST, 11 P3.0/RxD, 12 NIC, 13 P3.1/TxD, 14 P3.2/INT0, 15 P3.3/INT1, 16 P3.4/T0/CEX3, 17 P3.5/T1/CEX4, 18 P3.6/WR, 19 P3.7/RD, 20 XTAL2, 21 XTAL1, 22 Vss, 23 NIC, 24 P2.0/A8, 25 P2.1/A9, 26 P2.2/A10, 27 P2.3/A11, 28 P2.4/A12, 29 P2.5/A13, 30 P2.6/A14, 31 P2.7/A15, 32 PSEN, 33 ALE, 34 NIC, 35 EA/Vpp, 36 P0.7/AD7, 37 P0.6/AD6, 38 P0.5/AD5, 39 P0.4/AD4, 40 P0.3/AD3, 41 P0.2/AD2, 42 P0.1/AD1, 43 P0.0/AD0, 44 Vcc

## PANTALLA ETML101000DH6
designator P?, comment CONECTOR PANTALLA
Header, 20-Pin, Dual row; LatestRevisionDate: 17-Jul-2002; LatestRevisionNote: Re-released for DXP Platform.; Publisher: Altium Limited; FABRICANTE: *; CODIGO FABRICANTE: *; CODIGO DIGIKEY: *; CODIGO FARNELL: *; CODIGO MOUSER: *; DISTRIBUIDOR 1: *; DISTRIBUIDOR 2: *
signal-integrity model Connector
pins: 1 NC (io), 2 VDD (power), 3 VDD (power), 4 NC (io), 5 NC (io), 6 NC (io), 7 NC (io), 8 IND0- (io), 9 IND0+ (io), 10 GND (power), 11 IND1- (io), 12 IND1+ (io), 13 GND (power), 14 IND2- (io), 15 IND2+ (io), 16 GND (power), 17 NINC (io), 18 PINC (io), 19 GND (power), 20 IND3- (io), 21 IND3+ (io), 22 GND (power), 23 NC, 24 NC, 25 GND (power), 26 NC, 27 NC, 28 GND (power), 29 NC, 30 NC, 31 GND (power), 32 GND (power), 33 GND (power), 34 NC, 35 PWM (power), 36 LED-EN (io), 37 NC, 38 VLED (power), 39 VLED (power), 40 VLED (power)

## PCA8565
designator U?
CODIGO FARNELL: *; CODIGO DIGIKEY: *; PRECIO FARNELL 1: *; PRECIO DIGIKEY 1: *; PRECIO FARNELL 100: *; PRECIO FARNELL 500: *; PRECIO FARNELL 1000: *; PRECIO DIGIKEY 100: *; PRECIO DIGIKEY 500: *; PRECIO DIGIKEY 1000: *
footprint TSSOP-8
pins: 1 OSC1 (io), 2 OSC0 (io), 3 ~{INT} (io), 4 VSS (power), 5 SDA (io), 6 SCL (io), 7 CLKOUT (io), 8 VDD (power)

## PCF8523
designator U?
CODIGO FARNELL: *; CODIGO DIGIKEY: *; PRECIO FARNELL 1: *; PRECIO DIGIKEY 1: *; PRECIO FARNELL 100: *; PRECIO FARNELL 500: *; PRECIO FARNELL 1000: *; PRECIO DIGIKEY 100: *; PRECIO DIGIKEY 500: *; PRECIO DIGIKEY 1000: *
footprint SOIC-8
pins: 1 OSC1 (io), 2 OSC0 (io), 3 Vbat (io), 4 VSS (power), 5 SDA (io), 6 SCL (io), 7 ~{INT}/CLKOUT (io), 8 VDD (power)

## PCF85063
designator U?, comment PCF85063TP/1Z
FABRICANTE: NXP USA Inc.; CODIGO FARNELL: *; CODIGO DIGIKEY: 568-10236-1-ND; CODIGO MOUSER: *; DISTRIBUIDOR1: *; DISTRIBUIDOR2: *; REF_FABRICANTE: PCF85063TP/1Z
footprint 8-HWSON (PCF85063TP/1Z)
pins: 0 EP, 1 OSC1 (io), 2 OSC0 (io), 3 ~{INT} (io), 4 VSS (power), 5 SDA (io), 6 SCL (io), 7 CLKOUT (io), 8 VDD (power)

## PCF85063ATL
designator U?, comment PCF85063ATL/1,118
FABRICANTE: NXP Semiconductors; CODIGO FARNELL: *; CODIGO DIGIKEY: 568-10235-1-ND; CODIGO MOUSER: *; REF_FABRICANTE: PCF85063ATL/1,118; DISTRIBUIDOR1: *; DISTRIBUIDOR2: *
footprint DFN-10
pins: 0 EP, 1 OSCI, 2 OSCO, 3 CLKOE, 4 ~{INT}, 5 VSS (power), 6 SDA, 7 SCL, 8 n.c. (power), 9 CLKOUT, 10 VDD (power)

## PCF85263ATL
designator U?, comment PCF85263ATL/AX
FABRICANTE: NXP Semiconductors; CODIGO FARNELL: *; CODIGO DIGIKEY: 568-11541-1-ND; CODIGO MOUSER: *; REF_FABRICANTE: PCF85263ATL/AX; DISTRIBUIDOR1: *; DISTRIBUIDOR2: *
footprint DFN-10
pins: 0 EP, 1 OSCI, 2 OSCO, 3 Vbat, 4 TS(CLK/~{INTB}) (power), 5 VSS (power), 6 SDA, 7 SCL, 8 CLK (power), 9 ~{INTA}/(CLK), 10 VDD (power)

## PESD5V0U5BV
designator U?
CODIGO MOUSER: *
pins: 1 (io), 2 (io), 3 (io), 4 (io), 5 (io), 6 (io)

## Phonejack Stereo SW
designator J?
3-Conductor Jack with 2 break contacts (normals) and 2 auxiliary make contacts; Published: 5-Jan-2004; LatestRevisionDate: 17-Dec-2003; LatestRevisionNote: PCB Footprint replaced.; DatasheetDocument: 07-Mar-2000; Publisher: Altium Limited; ComponentLink1Description: Manufacturer Link; ComponentLink1URL: http://domino.kycon.com/internet/Products.html; CODIGO FARNELL: *; CODIGO DIGIKEY: *; CODIGO MOUSER: *; CODIGO PRODUCTO: *; DISTRIBUIDOR 1: *; DISTRIBUIDOR 2: *
signal-integrity model Connector
pins: 1, 2, 3, 4, 5

## PIC12C508
designator U?, comment 12C508
footprint DIP-8
pins: 1 Vdd, 2 GP5, 3 GP4, 4 GP3, 5 GP2, 6 GP1, 7 GP0, 8 Vss

## PIC16F84
designator U?
CODIGO FARNELL: *; PRECIO FARNELL: *; CARACTERISTICAS: *
pins: 1 RA2 (io), 2 RA3 (io), 3 RA4 (io), 4 ~{MCLR} (io), 5 Vss, 6 RB0/INT (io), 7 RB1 (io), 8 RB2 (io), 9 RB3 (io), 10 RB4 (io), 11 RB5 (io), 12 RB6 (io), 13 RB7 (io), 14 Vdd, 15 OSC2, 16 OSC1, 17 RA0 (io), 18 RA1 (io)

## PIC16F873
designator U?
Microcontrolador PIC 16 bit; CODIGO_DIGIKEY: *; CODIGO_FARNELL: *; CODIGO_MOUSER: *; REFERENCIA_FABRICANTE: *; FABRICANTE: *; DISTRIBUIDOR_1: *; DISTRIBUIDOR_2: *
pins: 1 VCC, 2 VSS/RB3, 3 VCC, 4 ~{VCC}, 5 CLK, 6 VCC, 7 VCC, 8 VCC, 9 VCC, 10 VCC, 11 VCC, 12 VCC, 13 VCC, 14 VCC, 15 VCC, 16 VCC

## PIC16F873/876
designator PIC?, comment PIC16F876A
MCU 8 bit, 8 KB RAM, 5 AD 10 bit, SPI, I2C
footprint dip-28
pins: 1 /MCLR/Vpp, 2 RA0/AN0, 3 RA1/AN1, 4 RA2/AN2, 5 RA3/AN3, 6 RA4/T0CKL, 7 RA5/AN4/SS, 8 Vss, 9 OSC1/CLKI, 10 OSC2/CLKO, 11 RC0/T1OSO/T1CKL, 12 RC1/T1OSI/CCP2, 13 RC2/CCP1, 14 RC3/SCK/SCL, 15 RC4/SDI/SDA, 16 RC5/SDO, 17 RC6/TX/CK, 18 RC7/RX/DT, 19 Vss, 20 Vdd, 21 RB0/INT, 22 RB1, 23 RB2, 24 RB3/PGM, 25 RB4, 26 RB5, 27 RB6/PGC, 28 RB7/PGD

## PIC16F874/7
designator PIC?, comment PIC16F83/7
PIC16F874/7
footprint DIP40
pins: 1 MCLR#/Vpp/TDH, 2 RA0/AN0, 3 RA1/AN1, 4 RA2/AN2/VRef-, 5 RA3/AN3/VRef+, 6 RA4/T0CKI, 7 RA5/AN4/SS#, 8 RE0/RD#/AN5, 9 RE1/WR#/AN6, 10 RE2/CS#/AN7, 11 Vdd, 12 Vss, 13 OSC1/CLKIN, 14 OSC2/CLKOUT, 15 RC0/T1OSO/T1CKI, 16 RC1/T1OSI/CPP2, 17 RC2/CCP1, 18 RC3/SCK/SCL, 19 RD0/PSP0, 20 RD1/PSP1, 21 RD2/PSP2, 22 RD3/PSP3, 23 RC4/SDI/SDA, 24 RC5/SD0, 25 RC6/TX/CK, 26 RC7/RX/DT, 27 RD4/PSP4, 28 RD5/PSP5, 29 RD6/PSP6, 30 RD7/PSP7, 31 Vss, 32 Vdd, 33 RB0/INT, 34 RB1, 35 RB2, 36 RB3/PGM, 37 RB4, 38 RB5, 39 RB6/PGC, 40 RB7/PGD

## PIC16F876
designator U?
footprint DIP-28
pins: 1 MCLR, 2 RA0/AN0, 3 RA1/AN1, 4 RA2/AN2, 5 RA3/AN3, 6 RA4, 7 RA5/AN4, 8 Vss, 9 OSC1, 10 OSC2, 11 RC0, 12 RC1, 13 RC2, 14 RC3, 15 RC4, 16 RC5, 17 RC6, 18 RC7, 19 Vss, 20 Vdd, 21 RB0, 22 RB1, 23 RB2, 24 RB3, 25 RB4, 26 RB5, 27 RB6, 28 RB7

## PIC18F14K50
designator U?
PIC convertidor USB; FABRICANTE: Microchip; CODIGO_FARNELL: *; CODIGO_DIGIKEY: *; CODIGO_MOUSER: *; CODIGO_FABRICANTE: *; DISTRIBUIDOR1: *; DISTRIBUIDOR2: *
pins: 1 VDD, 2 RA5/IOCA5/OSC1/CLKIN (io), 3 RA4/AN3/IOCA3/OSC2/CLKOUT (io), 4 RA3/IOCA3/~{MCLR}/VPP (in), 5 RC5/CCP1/P1A/T0CKI (io), 6 RC4/P1B/C12OUT/SRQ (io), 7 RC3/AN7/P1C/C12IN3-/PGM (io), 8 RC6/AN8/~{SS}/T13CKI/T1OSCI, 9 RC7/AN9/SDO/T1OSCO (io), 10 RB7/IOCB7/TX/CK (io), 11 RB6/IOCB6/SCK/SCL, 12 RB5/AN11/IOCB5/RX/DT (io), 13 RB4/AN10/IOCB4/SDI/SDA (io), 14 RC2/AN6/P1D/C12IN2-/CVREF/INT2 (io), 15 RC1/AN5/C12IN1-/INT1/VREF- (io), 16 RC0/AN4/C12IN+/INT0/VREF+ (io), 17 VUSB (in), 18 RA1/IOCA1/D-/PGC (io), 19 RA0/IOCA0/D+/PGD (io), 20 VSS (power)

## PIC18F458, DIP
designator *
CODIGO FARNELL: *; PRECIO FARNELL: *
pins: 1 ~{MCLR}/VPP/RE3 (in), 2 RA0/AN0/CVREF (io), 3 RA1/AN1 (io), 4 RA2/AN2/VREF- (io), 5 RA3/AN3/VREF+ (io), 6 RA4/T0CKI (io), 7 RA5/AN4/~{SS}/HLVDIN (io), 8 RE0/~{RD}/AN5 (io), 9 RE1/~{WR}/AN6/C1OUT (io), 10 RE2/~{CS}/AN7/C2OUT (io), 11 VDD (in), 12 VSS (in), 13 OSC1/CLKI/RA7 (in), 14 OSC2/CLKO/RA6 (out), 15 RC0/T1OSO/T13CKI (io), 16 RC1/T1OSI (io), 17 RC2/CCP1 (io), 18 RC3/SCK/SCL (io), 19 RD0/PSP0/C1IN+ (io), 20 RD1/PSP1/C1IN- (io), 21 RD2/PSP2/C2IN+ (io), 22 RD3/PSP3/C2IN- (io), 23 RC4/SDI/SDA (io), 24 RC5/SDO (io), 25 RC6/TX/CK (io), 26 RC7/RX/DT (io), 27 RD4/PSP4/ECCP1/P1A (io), 28 RD5/PSP5/P1B (io), 29 RD6/PSP6/P1C (io), 30 RD7/PSP7/P1D (io), 31 VSS (in), 32 VDD (in), 33 RB0/INT0/FLT0/AN10 (io), 34 RB1/INT1/AN8 (io), 35 RB2/INT2/CANTX (io), 36 RB3/CANRX (io), 37 RB4/KBI0/AN9 (io), 38 RB5/KBI1/PGM (io), 39 RB6/KBI2/PGC (io), 40 RB7/KBI3/PGD (io)

## PIC18F2550
designator U?
footprint DIP-28
pins: 1 MCLR/Vpp/RE3, 2 RA0/AN0, 3 RA1/AN1, 4 RA2/AN2, 5 RA3/AN3, 6 RA4/, 7 RA5/AN4/SS/, 8 Vss, 9 OSC1/CLK1, 10 OSC2/CLK0/RA6, 11 RC0/, 12 RC1/CCP2(2), 13 RC2/CCP1, 14 Vusb, 15 RC4/D-/VM, 16 RC5/D+/VP, 17 RC6/TX/CK, 18 RC7/RX/DT/SDO, 19 Vss, 20 Vdd, 21 RB0/AN12/INT0/SD/SDA/, 22 RB1/AN10/INT1/SCK/SCL, 23 RB2/AN8/INT2/VMO, 24 RB3/AN9/CCP2(2)/VPO, 25 RB4/AN11/, 26 RB5/PGM/, 27 RB6/PGC/, 28 RB7/PGD/

## PIC18F4420, PIC18F4520, 40 PIN-PDIP
designator *
CODIGO FARNELL: *; CODIGO DIGIKEY: *; CODIGO MOUSER: *; REF_FABRICANTE: *; FABRICANTE: *; ComponentLink1Description: *; ComponentLink1URL: *; ENCAPSULADO: *; DISTRIBUIDOR 1: *; DISTRIBUIDOR 2: *
pins: 1 ~{MCLR}/Vpp/RE3 (in), 2 RA0/AN0 (io), 3 RA1/AN1 (io), 4 RA2/AN2/Vref-/CVref (io), 5 RA3/AN3/Vref+ (io), 6 RA4/T0CKI/C1OUT (io), 7 RA5/AN4/~{SS}/HLVDIN/C2OUT (io), 8 RE0/~{RD}/AN5 (io), 9 RE1/~{WR}/AN6 (io), 10 RE2/~{CS}/AN7 (io), 11 Vdd (in), 12 Vss (in), 13 OSC1/CLKI/RA7 (io), 14 OSC2/CLKO/RA6 (io), 15 RC0/T1OSO/T13CKI (io), 16 RC1/T1OSI/CCP2 (io), 17 RC2/CCP1/P1A (io), 18 RC3/SCK/SCL (io), 19 RD0/PSP0 (io), 20 RD1/PSP1 (io), 21 RD2/PSP2 (io), 22 RD3/PSP3 (io), 23 RC4/SDI/SDA (io), 24 RC5/SDO (io), 25 RC6/TX/CK (io), 26 RC7/RX/DT (io), 27 RD4/PSP4 (io), 28 RD5/PSP5/P1B (io), 29 RD6/PSP6/P1C (io), 30 RD7/PSP7/P1D (io), 31 Vss (in), 32 Vdd (in), 33 RB0/INT0/FLT0/AN12 (io), 34 RB1/INT1/AN10 (io), 35 RB2/INT2/AN8 (io), 36 RB3/AN9/CCP2 (io), 37 RB4/KBI0/AN11 (io), 38 RB5/KBI1/PGM (io), 39 RB6/KBI2/PGC (io), 40 RB7/KBI3/PGD (io)

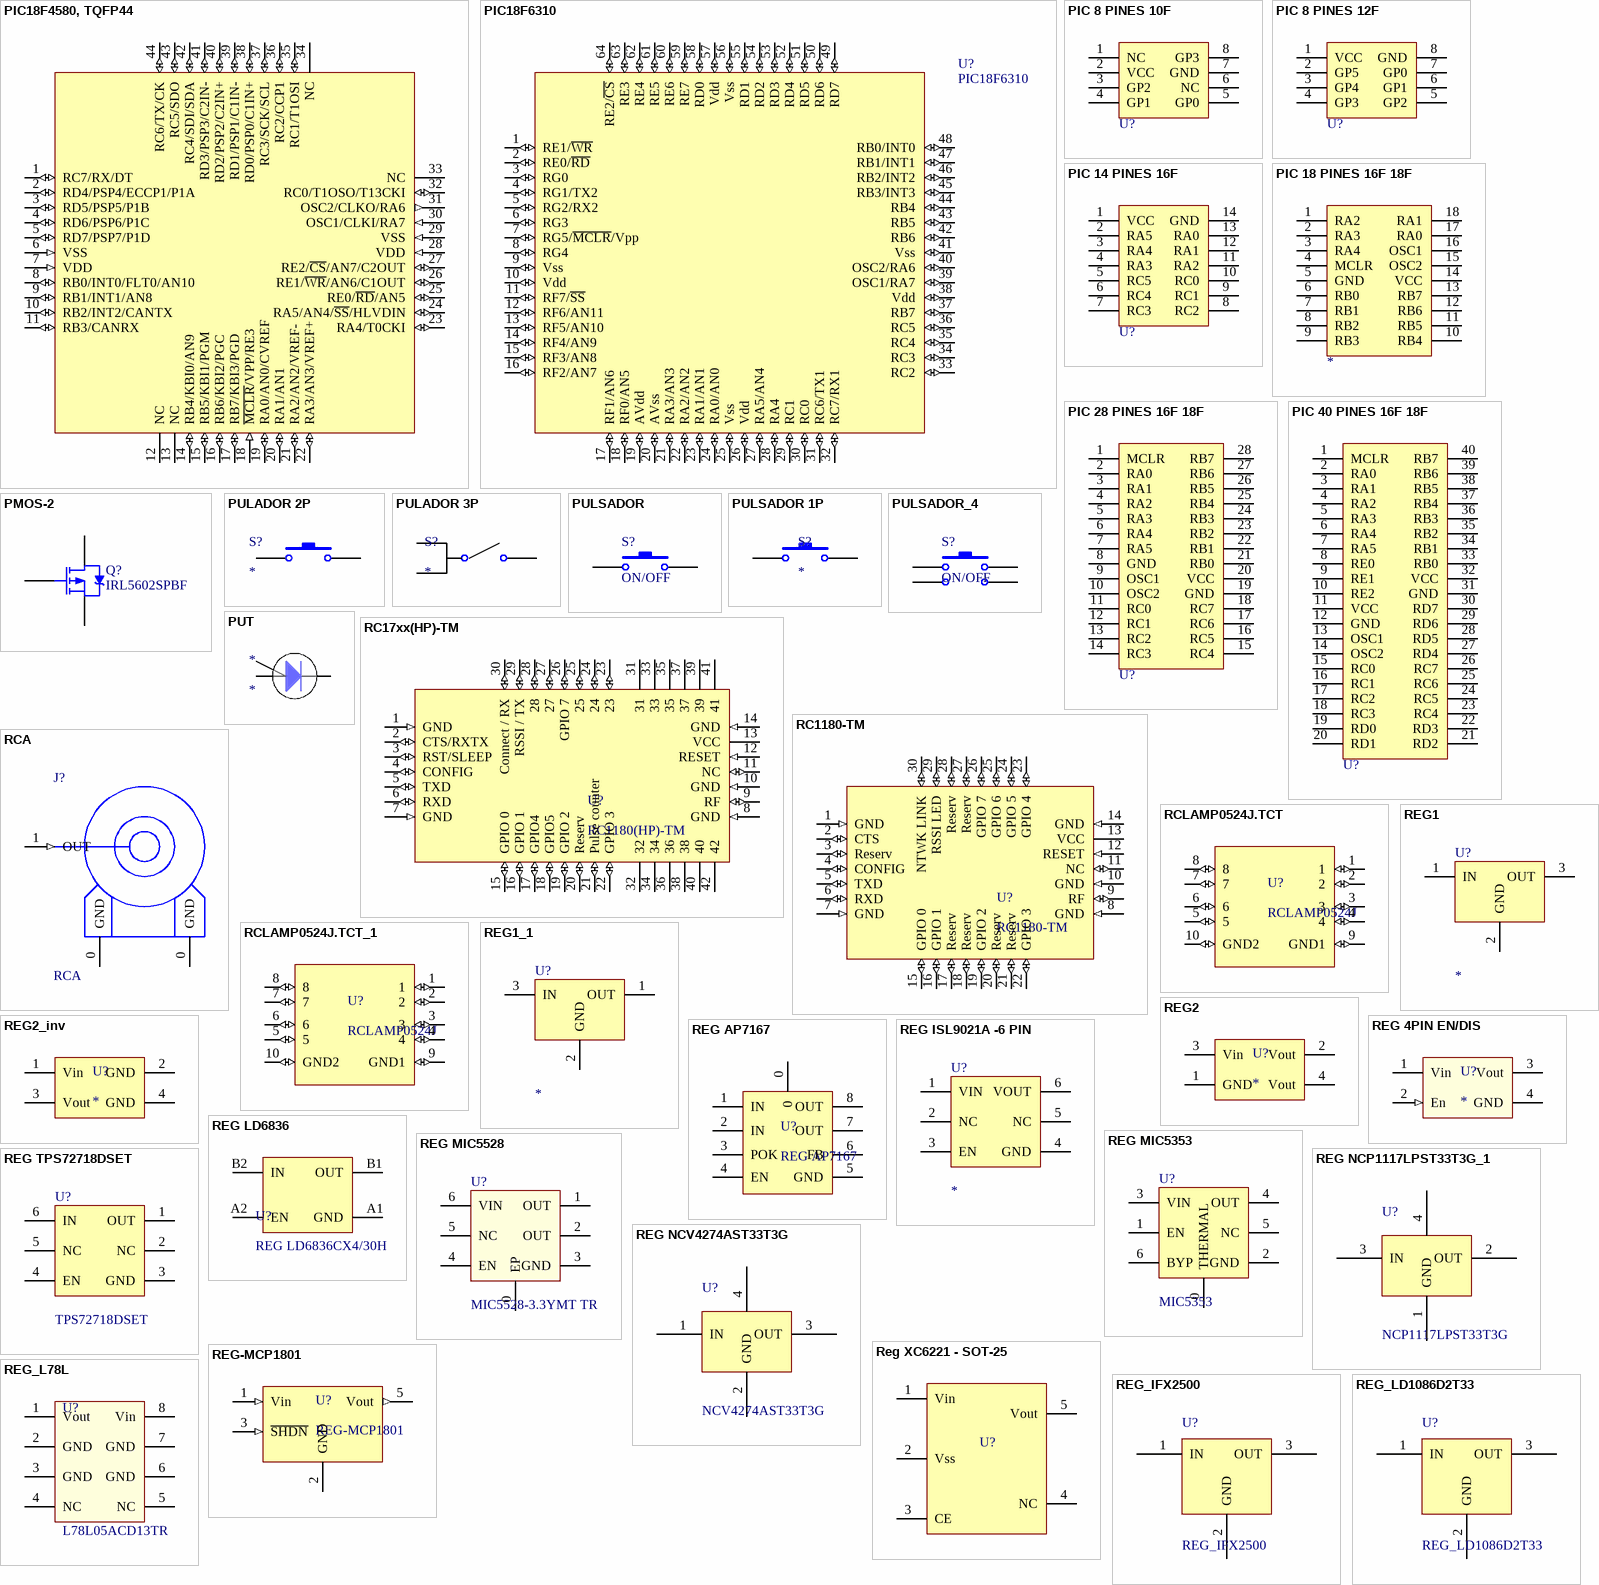
[diagram p15: symbols PIC18F4580, TQFP44 to REG_LD1086D2T33]

## PIC18F4580, TQFP44
designator *, comment PIC18F4580  (value not drawn)
EPROM-Based 8-Bit CMOS Microcontroller with A/D Converter; CODIGO FARNELL: *; PRECIO FARNELL: *
pins: 1 RC7/RX/DT (io), 2 RD4/PSP4/ECCP1/P1A (io), 3 RD5/PSP5/P1B (io), 4 RD6/PSP6/P1C (io), 5 RD7/PSP7/P1D (io), 6 VSS (in), 7 VDD (in), 8 RB0/INT0/FLT0/AN10 (io), 9 RB1/INT1/AN8 (io), 10 RB2/INT2/CANTX (io), 11 RB3/CANRX (io), 12 NC, 13 NC, 14 RB4/KBI0/AN9 (io), 15 RB5/KBI1/PGM (io), 16 RB6/KBI2/PGC (io), 17 RB7/KBI3/PGD (io), 18 ~{MCLR}/VPP/RE3 (in), 19 RA0/AN0/CVREF (io), 20 RA1/AN1 (io), 21 RA2/AN2/VREF- (io), 22 RA3/AN3/VREF+ (io), 23 RA4/T0CKI (io), 24 RA5/AN4/~{SS}/HLVDIN (io), 25 RE0/~{RD}/AN5 (io), 26 RE1/~{WR}/AN6/C1OUT (io), 27 RE2/~{CS}/AN7/C2OUT (io), 28 VDD (in), 29 VSS (in), 30 OSC1/CLKI/RA7 (in), 31 OSC2/CLKO/RA6 (out), 32 RC0/T1OSO/T13CKI (io), 33 NC, 34 NC, 35 RC1/T1OSI (io), 36 RC2/CCP1 (io), 37 RC3/SCK/SCL (io), 38 RD0/PSP0/C1IN+ (io), 39 RD1/PSP1/C1IN- (io), 40 RD2/PSP2/C2IN+ (io), 41 RD3/PSP3/C2IN- (io), 42 RC4/SDI/SDA (io), 43 RC5/SDO (io), 44 RC6/TX/CK (io)

## PIC18F6310
designator U?
footprint None Available
pins: 1 RE1/~{WR} (io), 2 RE0/~{RD} (io), 3 RG0 (io), 4 RG1/TX2 (io), 5 RG2/RX2 (io), 6 RG3 (io), 7 RG5/~{MCLR}/Vpp (io), 8 RG4 (io), 9 Vss (io), 10 Vdd (io), 11 RF7/~{SS} (io), 12 RF6/AN11 (io), 13 RF5/AN10 (io), 14 RF4/AN9 (io), 15 RF3/AN8 (io), 16 RF2/AN7 (io), 17 RF1/AN6 (io), 18 RF0/AN5 (io), 19 AVdd (io), 20 AVss (io), 21 RA3/AN3 (io), 22 RA2/AN2 (io), 23 RA1/AN1 (io), 24 RA0/AN0 (io), 25 Vss (io), 26 Vdd (io), 27 RA5/AN4 (io), 28 RA4 (io), 29 RC1 (io), 30 RC0 (io), 31 RC6/TX1 (io), 32 RC7/RX1 (io), 33 RC2 (io), 34 RC3 (io), 35 RC4 (io), 36 RC5 (io), 37 RB7 (io), 38 Vdd (io), 39 OSC1/RA7 (io), 40 OSC2/RA6 (io), 41 Vss (io), 42 RB6 (io), 43 RB5 (io), 44 RB4 (io), 45 RB3/INT3 (io), 46 RB2/INT2 (io), 47 RB1/INT1 (io), 48 RB0/INT0 (io), 49 RD7 (io), 50 RD6 (io), 51 RD5 (io), 52 RD4 (io), 53 RD3 (io), 54 RD2 (io), 55 RD1 (io), 56 Vss (io), 57 Vdd (io), 58 RD0 (io), 59 RE7 (io), 60 RE6 (io), 61 RE5 (io), 62 RE4 (io), 63 RE3 (io), 64 RE2/~{CS} (io)

## PIC 8 PINES 10F
designator U?, comment PICS DE 8 PINES  (value not drawn)
footprint DIP-8
pins: 1 NC, 2 VCC, 3 GP2, 4 GP1, 5 GP0, 6 NC, 7 GND, 8 GP3

## PIC 8 PINES 12F
designator U?  (value not drawn)
footprint DIP-8
pins: 1 VCC, 2 GP5, 3 GP4, 4 GP3, 5 GP2, 6 GP1, 7 GP0, 8 GND

## PIC 14 PINES 16F
designator U?  (value not drawn)
footprint DIP-14
pins: 1 VCC, 2 RA5, 3 RA4, 4 RA3, 5 RC5, 6 RC4, 7 RC3, 8 RC2, 9 RC1, 10 RC0, 11 RA2, 12 RA1, 13 RA0, 14 GND

## PIC 18 PINES 16F 18F
designator *, comment PIC 14 PINES 16F 18F  (value not drawn)
footprint DIP-18
pins: 1 RA2, 2 RA3, 3 RA4, 4 MCLR, 5 GND, 6 RB0, 7 RB1, 8 RB2, 9 RB3, 10 RB4, 11 RB5, 12 RB6, 13 RB7, 14 VCC, 15 OSC2, 16 OSC1, 17 RA0, 18 RA1

## PIC 28 PINES 16F 18F
designator U?  (value not drawn)
footprint DIP-28
pins: 1 MCLR, 2 RA0, 3 RA1, 4 RA2, 5 RA3, 6 RA4, 7 RA5, 8 GND, 9 OSC1, 10 OSC2, 11 RC0, 12 RC1, 13 RC2, 14 RC3, 15 RC4, 16 RC5, 17 RC6, 18 RC7, 19 GND, 20 VCC, 21 RB0, 22 RB1, 23 RB2, 24 RB3, 25 RB4, 26 RB5, 27 RB6, 28 RB7

## PIC 40 PINES 16F 18F
designator U?  (value not drawn)
footprint DIP-40
pins: 1 MCLR, 2 RA0, 3 RA1, 4 RA2, 5 RA3, 6 RA4, 7 RA5, 8 RE0, 9 RE1, 10 RE2, 11 VCC, 12 GND, 13 OSC1, 14 OSC2, 15 RC0, 16 RC1, 17 RC2, 18 RC3, 19 RD0, 20 RD1, 21 RD2, 22 RD3, 23 RC4, 24 RC5, 25 RC6, 26 RC7, 27 RD4, 28 RD5, 29 RD6, 30 RD7, 31 GND, 32 VCC, 33 RB0, 34 RB1, 35 RB2, 36 RB3, 37 RB4, 38 RB5, 39 RB6, 40 RB7

## PMOS-2
designator Q?, comment IRL5602SPBF
P-Channel Power MOSFET; Manufacturer: Generic Components; Class I: Discrete; Class II: MOSFET - Power; Note: Pin 4 not drawn and electrically connected to Pin 2.; PRECIO: 1.063; Published: 8-Jun-2000; Revision: July-2002: Re-released for DXP Platform.; Datasheet: Latest Revision: PD-9.390D; Package Reference: TO-220AB; Publisher: Altium Limited; FARNELL: 3915815
footprint SFM-T3/A4.7V (TO-220AB)
simulation model IRF9510 (Spice Subcircuit)
footprint TO-263AB (IRL5602S)
pins: 1 G, 2 D, 3 S

## PULADOR 2P
designator S?
Pulsador 2Pin; CODIGO DIGIKEY: *; CODIGO FARNELL: *; CODIGO MOUSER: *; ComponentLink1Description: *; Componentlink1URL: *; FABRICANTE: *; REF_FABRICANTE: *; DISTRIBUIDOR 1: *; DISTRIBUIDOR 2: *
pins: 1, 2

## PULADOR 3P
designator S?
Pulsador 3Pin; CODIGO DIGIKEY: *; CODIGO FARNELL: *; CODIGO MOUSER: *; ComponentLink1Description: *; Componentlink1URL: *; FABRICANTE: *; REF_FABRICANTE: *; DISTRIBUIDOR 1: *; DISTRIBUIDOR 2: *
pins: 1, 2, 3

## PULSADOR
designator S?, comment ON/OFF
Switch; Manufacturer: Generic Components; Published: 24-Mar-1999; Revision: July-2002: Re-released for DXP Platform.; Publisher: Altium Limited; CODIGO_DIGIKEY: *; CODIGO FARNELL: *; CODIGO MOUSER: *; DISTRIBUIDOR 1: *; DISTRIBUIDOR 2: *; CODIGO FABRICANTE: *; FABRICANTE: *
pins: 1, 2

## PULSADOR 1P
designator S?
Pulsador; CODIGO DIGIKEY: *; CODIGO MOUSER: *; CODIGO FARNELL: *; FABRICANTE: *; REF_FABRICANTE: *; DISTRIBUIDOR 1: *; DISTRIBUIDOR 2: *; ComponentLink1Description: *; ComponentLink1URL: *; Vmáx: *; Imáx: *
pins: 1, 2

## PULSADOR_4
designator S?, comment ON/OFF
Switch; Manufacturer: Generic Components; Published: 24-Mar-1999; Revision: July-2002: Re-released for DXP Platform.; Publisher: Altium Limited
pins: 1, 2, 3, 4

## PUT
designator *
pins: 1 A, 2 K, 3

## RC17xx(HP)-TM
designator U?, comment RC1180(HP)-TM
Modulo TinyMesh; FABRICANTE: RadioCrafts; CODIGO DIGIKEY: *; CODIGO FARNELL: *; CODIGO MOUSER: *; PRECIO FARNELL: *; PRECIO DIGIKEY: *; DISTRIBUIDOR: DIODE; REF_FABRICANTE: RC1180(HP)-TM
footprint RC17xx(HP)-TM (Modulo Radiocraft 41 pines)
pins: 1 GND (in), 2 CTS/RXTX (io), 3 RST/SLEEP (io), 4 CONFIG (io), 5 TXD (io), 6 RXD (io), 7 GND (in), 8 GND (in), 9 RF (io), 10 GND (in), 11 NC (io), 12 RESET (in), 13 VCC (power), 14 GND (in), 15 GPIO 0 (io), 16 GPIO 1 (io), 17 GPIO4 (io), 18 GPIO5 (io), 19 GPIO 2 (io), 20 Reserv (io), 21 Pulse counter (io), 22 GPIO 3 (io), 23 (io), 24 (io), 25 (io), 26 GPIO 7 (io), 27 (io), 28 (io), 29 RSSI / TX (io), 30 Connect / RX (io), 31, 32, 33, 34, 35, 36, 37, 38, 39, 40, 41, 42

## RC1180-TM
designator U?
Modulo TinyMesh; CODIGO DIGIKEY: *; CODIGO FARNELL: *; CODIGO MOUSER: *; PRECIO FARNELL: *; PRECIO DIGIKEY: *; DISTRIBUIDOR: DIODE
pins: 1 GND (in), 2 CTS (io), 3 Reserv (io), 4 CONFIG (io), 5 TXD (io), 6 RXD (io), 7 GND (in), 8 GND (in), 9 RF (io), 10 GND (in), 11 NC (io), 12 RESET (in), 13 VCC (power), 14 GND (in), 15 GPIO 0 (io), 16 GPIO 1 (io), 17 Reserv (io), 18 Reserv (io), 19 GPIO 2 (io), 20 Reserv (io), 21 Reserv (io), 22 GPIO 3 (io), 23 GPIO 4 (io), 24 GPIO 5 (io), 25 GPIO 6 (io), 26 GPIO 7 (io), 27 Reserv (io), 28 Reserv (io), 29 RSSI LED (io), 30 NTWK LINK (io)

## RCA
designator J?
FABRICANTE: NTK; REF FABRICANTE: LIT157P-2003A; PRECIO: *
footprint LIT157P-2004A (ANTENA GPS)
footprint RCJ-02
pins: 0 GND, 0 GND, 1 OUT (in)

## RCLAMP0524J.TCT
designator U?, comment RCLAMP0524J
CLASS: ESD DEVICE; FABRICANTE: *; CODIGO FABRICANTE: *; CODIGO DIGIKEY: *; FOOTPRINT: *
pins: 1 (io), 2 (io), 3 (io), 4 (io), 5 (io), 6 (io), 7 (io), 8 (io), 9 GND1 (io), 10 GND2 (io)

## RCLAMP0524J.TCT_1
designator U?, comment RCLAMP0524J
CLASS: ESD DEVICE; FABRICANTE: *; CODIGO FABRICANTE: *; CODIGO DIGIKEY: *; FOOTPRINT: *
pins: 1 (io), 2 (io), 3 (io), 4 (io), 5 (io), 6 (io), 7 (io), 8 (io), 9 GND1 (io), 10 GND2 (io)

## REG1
designator U?
Regulador genérico 3 pin; CODIGO DIGIKEY: *; CODIGO FARNELL: *; CODIGO MOUSER: *; DISTRIBUIDOR 1: *; DISTRIBUIDOR 2: *; FABRICANTE: *; REF_FABRICANTE: *; ComponentLink1URL: *; ComponentLink1Description: *; Vin: *; Vout: *; Iout: *
pins: 1 IN (power), 2 GND (power), 3 OUT (power)

## REG1_1
designator U?
Regulador genérico 3 pin; CODIGO DIGIKEY: *; CODIGO FARNELL: *; CODIGO MOUSER: *; DISTRIBUIDOR 1: *; DISTRIBUIDOR 2: *; FABRICANTE: *; REF_FABRICANTE: *; ComponentLink1URL: *; ComponentLink1Description: *; Vin: *; Vout: *; Iout: *
pins: 1 OUT (power), 2 GND (power), 3 IN (power)

## REG2
designator U?
Regulador genérico 4 pin; CODIGO DIGIKEY: *; CODIGO FARNELL: *; CODIGO MOUSER: *; REF_FABRICANTE: *; FABRICANTE: *; DISTRIBUIDOR 1: *; DISTRIBUIDOR 2: *; ComponentLink1Description: *; ComponentLink1URL: *; Vin: *; Vout: *; Iout: *
pins: 1 GND, 2 Vout, 3 Vin, 4 Vout

## REG2_inv
designator U?
Regulador genérico 4 pin; CODIGO DIGIKEY: *; CODIGO FARNELL: *; CODIGO MOUSER: *; REF_FABRICANTE: *; FABRICANTE: *; DISTRIBUIDOR 1: *; DISTRIBUIDOR 2: *; ComponentLink1Description: *; ComponentLink1URL: *; Vin: *; Vout: *; Iout: *
pins: 1 Vin, 2 GND, 3 Vout, 4 GND

## REG 4PIN EN/DIS
designator U?
Regulador genérico 4 pin con entrada de habilitación; CODIGO DIGIKEY: *; CODIGO FARNELL: *; CODIGO MOUSER: *; REF_FABRICANTE: *; FABRICANTE: *; DISTRIBUIDOR 1: *; DISTRIBUIDOR 2: *; ComponentLink1Description: *; ComponentLink1URL: *; Vin: *; Vout: *; Iout: *
pins: 1 Vin (power), 2 En (in), 3 Vout (power), 4 GND (power)

## REG AP7167
designator U?
Reg 3v; REF FABRICANTE: AP7167-SPG-13; CODIGO FARNELL: *; CODIGO MOUSER: *; CODIGO DIGIKEY: AP7167-SPGDICT-ND; FABRICANTE: *; DISTRIBUIDOR 1: *; DISTRIBUIDOR 2: *
pins: 0, 1 IN, 2 IN, 3 POK, 4 EN, 5 GND (power), 6 FB, 7 OUT, 8 OUT

## REG ISL9021A -6 PIN
designator U?
Reg LDO, 1.2V - 3.3V, 0.25A; CODIGO DIGIKEY: *; CODIGO FARNELL: *; CODIGO MOUSER: *; FABRICANTE: *; REF_FABRICANTE: *; DISTRIBUIDOR 1: *; DISTRIBUIDOR 2: *; ComponentLink1URL: *; ComponentLink1Description: *
pins: 1 VIN, 2 NC, 3 EN, 4 GND, 5 NC hidden, 6 VOUT

## REG LD6836
designator U?, comment REG LD6836CX4/30H
LDO 2,3-5.5 to 3.0V; REF FABRICANTE: *; CÓDIGO FARNELL: *; CÓDIGO MOUSER: *; CÓDIGO DIGIKEY: *; FABRICANTE: *; DISTRIBUIDOR 1: *; DISTRIBUIDOR 2: *
pins: A1 GND (power), A2 EN, B1 OUT, B2 IN

## REG MIC5353
designator U?, comment MIC5353
Reg LDO, 1.8 V, 0.5A; CODIGO DIGIKEY: *; CODIGO FARNELL: *; CODIGO MOUSER: *; FABRICANTE: *; REF_FABRICANTE: *; DISTRIBUIDOR 1: *; DISTRIBUIDOR 2: *; ComponentLink1URL: *; ComponentLink1Description: *
pins: 0 THERMAL, 1 EN, 2 GND, 3 VIN, 4 OUT, 5 NC hidden, 6 BYP

## REG MIC5528
designator U?, comment MIC5528-3.3YMT TR
Reg LDO, 3.3V, 0.5A; FABRICANTE: Micrel Inc; CODIGO DIGIKEY: 576-4766-1-ND; CODIGO FARNELL: *; CODIGO MOUSER: *; REF_FABRICANTE: MIC5528-3.3YMT TR; DISTRIBUIDOR 1: *; DISTRIBUIDOR 2: *; ComponentLink1URL: *; ComponentLink1Description: *
pins: 0 EP, 1 OUT, 2 OUT, 3 GND, 4 EN, 5 NC hidden, 6 VIN

## REG NCP1117LPST33T3G_1
designator U?, comment NCP1117LPST33T3G
CODIGO DIGIKEY: NCP1117LPST33T3GOSCT-ND
pins: 1 GND, 2 OUT, 3 IN, 4 0

## REG NCV4274AST33T3G
designator U?, comment NCV4274AST33T3G
Reg LDO 4.5-40 to 3.3V, 400mA; CODIGO DIGIKEY: NCV4274AST33T3GOSCT-ND
pins: 1 IN, 2 GND, 3 OUT, 4 0

## REG TPS72718DSET
designator U?, comment TPS72718DSET
LDO , 5.5V to 1.8V, 250mA; CODIGO DIGIKEY: 296-25192-1-ND
pins: 1 OUT, 2 NC, 3 GND, 4 EN, 5 NC, 6 IN

## Reg XC6221 - SOT-25
designator U?  (value not drawn)
Reg LDO 1.8V 0.2A SOT-25; CODIGO DIGIKEY: *; CODIGO FARNELL: *; CODIGO MOUSER: *; FABRICANTE: *; REF FABRICANTE: *; DISTRIBUIDOR 1: *; DISTRIBUIDOR 2: *; ComponentLink1Description: *; ComponentLink1URL: *
pins: 1 Vin, 2 Vss, 3 CE, 4 NC, 5 Vout

## REG-MCP1801
designator U?
Regulador de tensión con realimentación y control; CODIGO_FARNELL: *; CODIGO_DIGIKEY: *; CODIGO_MOUSER: *; CODIGO_FABRICANTE: *; DISTRIBUIDOR1: *; DISTRIBUIDOR2: *; VALOR: *
pins: 1 Vin (in), 2 GND (power), 3 ~{SHDN} (in), 4 NC hidden, 5 Vout (out)

## REG_IFX2500
designator U?
Reg LDO 5.5-40 to 5V, 400mA; CODIGO DIGIKEY: IFX25001TF V50INCT-ND
pins: 1 IN (power), 2 GND, 3 OUT (power)

## REG_L78L
designator U?, comment L78L05ACD13TR
Regulador; FABRICANTE: STMicroelectronics; Vin: V30 max; Vout: 5V; Iout: 0.1A; CODIGO DIGIKEY: 497-1182-1-ND; CODIGO FARNELL: *; CODIGO MOUSER: *; DISTRIBUIDOR 1: *; DISTRIBUIDOR 2: *; REF_FABRICANTE: L78L05ACD13TR; ComponentLink1URL: *; ComponentLink1Description: *
footprint SO-8
pins: 1 Vout, 2 GND, 3 GND, 4 NC, 5 NC, 6 GND, 7 GND, 8 Vin

## REG_LD1086D2T33
designator U?
Reg LDO 3.6-30 to 3.3V, 1.5A; CODIGO DIGIKEY: 497-1224-1-ND
pins: 1 IN (power), 2 GND, 3 OUT (power)

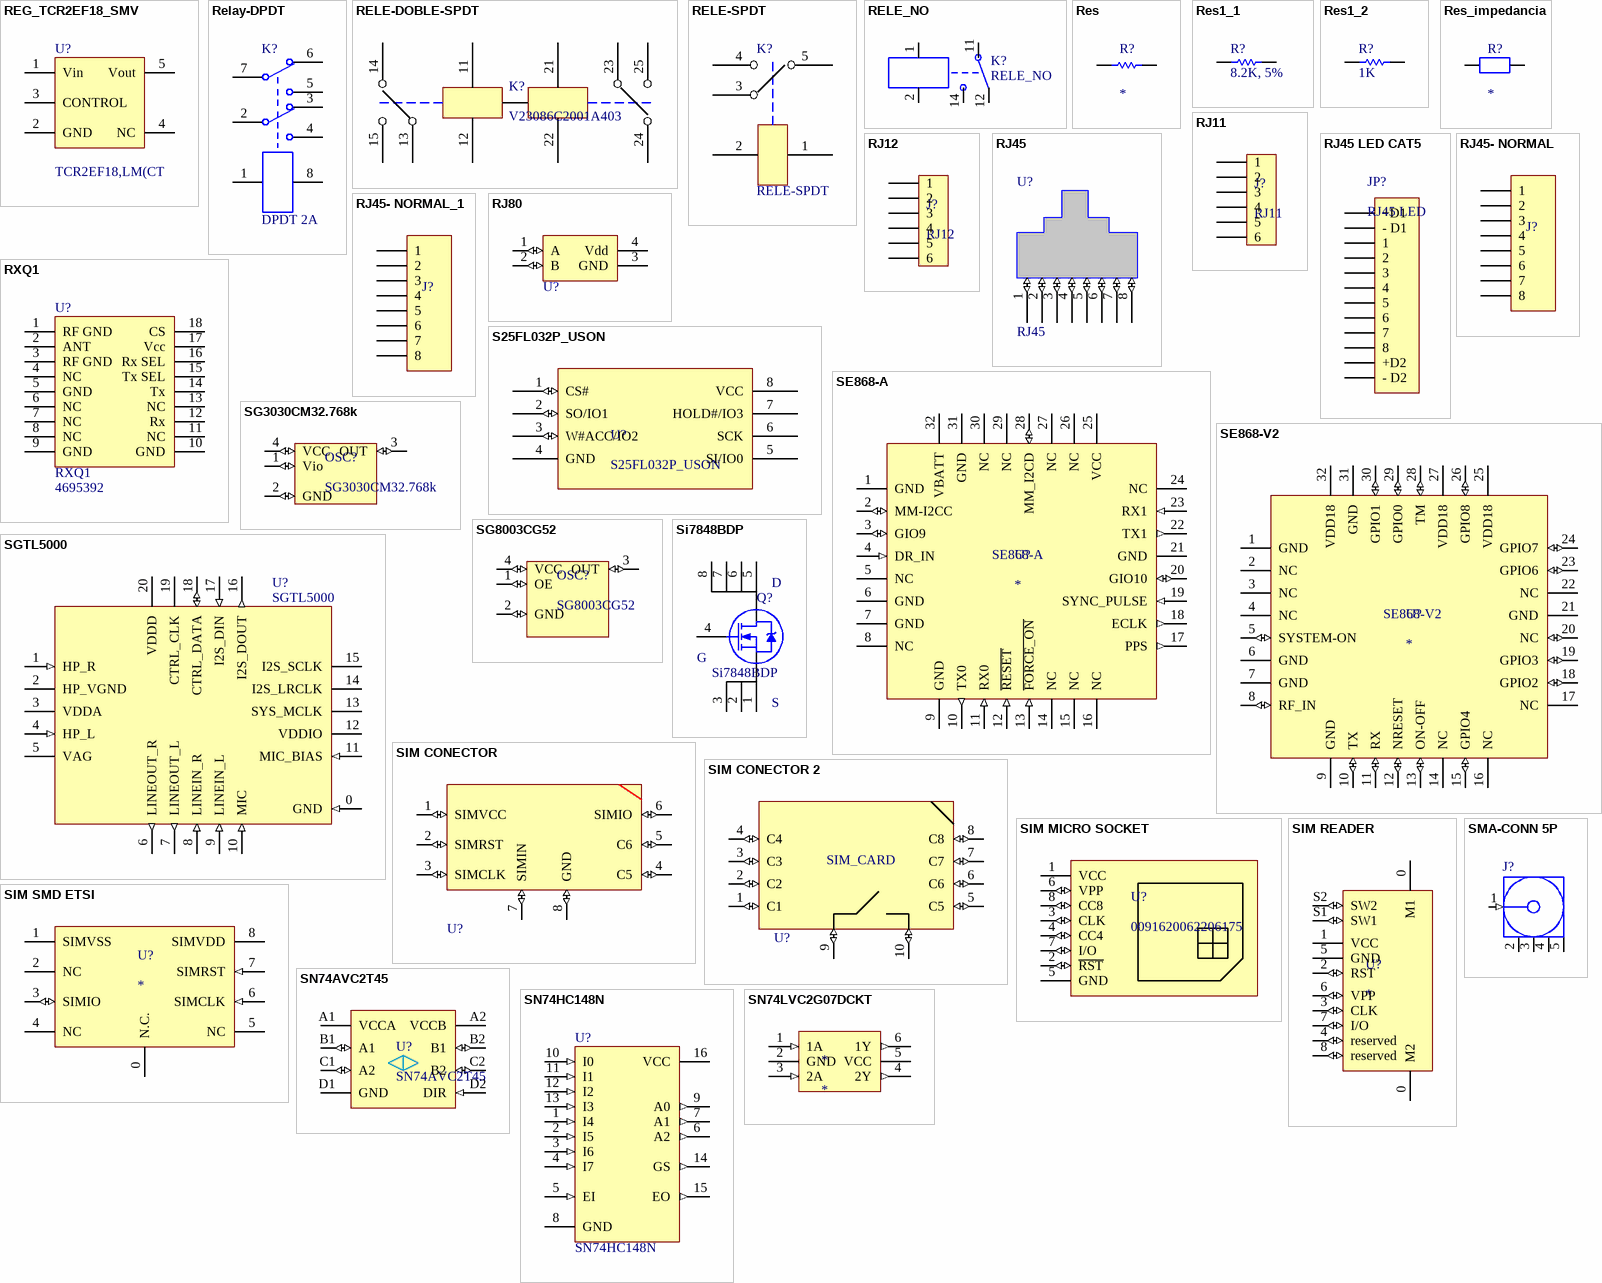
[diagram p16: symbols REG_TCR2EF18_SMV to SN74LVC2G07DCKT]

## REG_TCR2EF18_SMV
designator U?, comment TCR2EF18,LM(CT
Regulador genérico 3 pin; FABRICANTE: Toshiba; Vin: up to 5.5V; Vout: 1.8V; Iout: 0.2A; CODIGO DIGIKEY: TCR2EF18LM(CTCT-ND; CODIGO FARNELL: *; CODIGO MOUSER: *; DISTRIBUIDOR 1: *; DISTRIBUIDOR 2: *; REF_FABRICANTE: TCR2EF18,LM(CT; ComponentLink1URL: *; ComponentLink1Description: *
footprint SOT23_5
pins: 1 Vin (power), 2 GND (power), 3 CONTROL (power), 4 NC, 5 Vout

## Relay-DPDT
designator K?, comment DPDT 2A
FINDER DPDT, Serie 30, 5 V dc, 2 A; Manufacturer: Generic Components; Class I: Electro-mechanical; Class II: Relay; RS Code: 492-6580; Published: 24-Mar-1999; Revision: July-2002: Re-released for DXP Platform.; Publisher: Altium Limited; Company: FINDER; Type: Serie 30
footprint RELE DPDT
simulation model DPDTRELAY (Spice Subcircuit)
pins: 1 A1, 2 21, 3 22, 4 24, 5 14, 6 12, 7 11, 8 A2

## RELE-DOBLE-SPDT
designator K?, comment V23086C2001A403
CODIGO FARNELL: 9659021; PRECIO FARNELL 1: 3.63; PRECIO FARNELL 250: 3.04
pins: 11, 12, 13, 14, 15, 21, 22, 23, 24, 25

## RELE-SPDT
designator K?
pins: 1, 2, 3, 4, 5

## RELE_NO
designator K?
CODIGO DIGIKEY: PB766-ND; PRECIO DIGIKEY: 1
pins: 1, 2, 11, 12, 14

## Res
designator R?
Resistencia; CODIGO FARNELL: *; CODIGO DIGIKEY: *; CODIGO MOUSER: *; FABRICANTE: *; DISTRIBUIDOR 1: *; DISTRIBUIDOR 2: *; REF_FABRICANTE: *; POTENCIA: *; TOLERANCIA: *; ENCAPSULADO: *; VALOR: *
pins: 1, 2

## Res1_1
designator R?, comment value 8.2K, 5%  (hidden comment: Res1)
Resistor; Manufacturer: Generic Components; Class I: Passive; Published: 8-Jun-2000; Revision: July-2002: Re-released for DXP Platform.; Publisher: Altium Limited; Class II: Resistor; REF FARNELL 1206 SMD 510R: 4387065; REF FARNELL 1206 SMD 1K: 912475; REF FARNELL 1206 SMD 10K: 912591; REF FARNELL 0603 SMD: 612-595
footprint AXIAL-0.4
simulation model RESISTOR (Resistor)
signal-integrity model Res1
footprint AXIAL-0.3
footprint 0603 (para conden y resistencias)
pins: 1, 2

## Res1_2
designator R?, comment value 1K  (hidden comment: Res1)
Resistor; Manufacturer: Generic Components; Class I: Passive; Published: 8-Jun-2000; Revision: July-2002: Re-released for DXP Platform.; Publisher: Altium Limited; Class II: Resistor
footprint 1206 (footprint LEDS_RESIST 1206)
simulation model RESISTOR (Resistor)
signal-integrity model Res1
pins: 1, 2

## Res_impedancia
designator R?
Resistencia_impedancia; CODIGO FARNELL: *; CODIGO DIGIKEY: *; CODIGO MOUSER: *; FABRICANTE: *; DISTRIBUIDOR 1: *; DISTRIBUIDOR 2: *; REF_FABRICANTE: *; POTENCIA: *; TOLERANCIA: *; ENCAPSULADO: *; VALOR: *
pins: 1, 2

## RJ11
designator J?
CODIGO FARNELL: *; CODIGO DIGIKEY: *; CODIGO FABRICANTE: *
pins: 1, 2, 3, 4, 5, 6

## RJ12
designator J?
CODIGO FARNELL: *; CODIGO DIGIKEY: *; CODIGO FABRICANTE: *
pins: 1, 2, 3, 4, 5, 6

## RJ45
designator U?
RS AMIDATA: 423-3507; PRECIO AMIDATA: 0,99
pins: 1 (io), 2 (io), 3 (io), 4 (io), 5 (io), 6 (io), 7 (io), 8 (io)

## RJ45 LED CAT5
designator JP?, comment RJ45 LED
RJ45-LEDS tipo CAT5 REF. FAB. RJHSE-5081; DIGI-KEY: RJHSE-5081-ND
pins: 1, 2, 3, 4, 5, 6, 7, 8, 9 +D1, 10 - D1, 11 +D2, 12 - D2

## RJ45- NORMAL
designator J?  (value not drawn)
CONECTOR RJ45; CODIGO FARNELL: *; CODIGO DIGIKEY: *; CODIGO PRODUCTO: *; FABRICANTE: *
footprint RJ45
pins: 1, 2, 3, 4, 5, 6, 7, 8

## RJ45- NORMAL_1
designator J?, comment RJ45- NORMAL  (value not drawn)
CONECTOR RJ45; CODIGO FARNELL: *; CODIGO DIGIKEY: *; CODIGO PRODUCTO: *; FABRICANTE: *
footprint RJ45
pins: 1, 2, 3, 4, 5, 6, 7, 8

## RJ80
designator U?  (value not drawn)
EQUILIBRADOR TENSIÓN; REF FARNELL: 280-5676; PRECIO FARNELL: 0.80
footprint DIP-4
pins: 1 A (io), 2 B (io), 3 GND (power), 4 Vdd (power)

## RXQ1
designator U?  REF FARNELL: 4695392
footprint RXQ1 (MODULO RF RXQ1 100 mil)
pins: 1 RF GND, 2 ANT, 3 RF GND, 4 NC, 5 GND, 6 NC, 7 NC, 8 NC, 9 GND, 10 GND, 11 NC, 12 Rx, 13 NC, 14 Tx, 15 Tx SEL, 16 Rx SEL, 17 Vcc, 18 CS

## S25FL032P_USON
designator U?
Memory Flash 32Mbit; CODIGO DIGIKEY: *; CODIGO MOUSER: *; CODIGO FARNELL: *; REFERENCIA FABRICANTE: *; FABRICANTE: *; DISTRIBUIDOR 1: *; DISTRIBUIDOR 2: *
pins: 1 CS# (io), 2 SO/IO1 (io), 3 W#ACC/IO2 (io), 4 GND (power), 5 SI/IO0 (power), 6 SCK (power), 7 HOLD#/IO3 (power), 8 VCC (power)

## SE868-A
designator U?
SE868-A; CODIGO DIGIKEY: *; CODIGO FARNELL: *; CODIGO MOUSER: *; FABRICANTE: *; REF_FABRICANTE: *; DISTRIBUIDOR 1: *; DISTRIBUIDOR 2: *; ComponentLink1Description: *; ComponentLink1URL: *
footprint SE868-V2 (GPS TELIT SE868-V2)
pins: 1 GND (power), 2 MM-I2CC (io), 3 GIO9 (io), 4 DR_IN (in), 5 NC, 6 GND (power), 7 GND (power), 8 NC, 9 GND (power), 10 TX0 (out), 11 RX0 (in), 12 ~{RESET} (in), 13 ~{FORCE_ON} (in), 14 NC, 15 NC, 16 NC, 17 PPS (out), 18 ECLK (out), 19 SYNC_PULSE (in), 20 GIO10 (io), 21 GND (power), 22 TX1 (out), 23 RX1 (in), 24 NC, 25 VCC (power), 26 NC, 27 NC, 28 MM_I2CD (io), 29 NC, 30 NC, 31 GND (power), 32 VBATT (power)

## SE868-V2
designator U?
SE868-V2; CODIGO DIGIKEY: *; CODIGO FARNELL: *; CODIGO MOUSER: *; FABRICANTE: *; CODIGO FABRICANTE: *; DISTRIBUIDOR 1: *; DISTRIBUIDOR 2: *
pins: 1 GND (power), 2 NC, 3 NC, 4 NC, 5 SYSTEM-ON (io), 6 GND (power), 7 GND (power), 8 RF_IN (io), 9 GND (power), 10 TX (io), 11 RX (io), 12 NRESET (io), 13 ON-OFF (io), 14 NC, 15 GPIO4 (io), 16 NC, 17 NC, 18 GPIO2 (io), 19 GPIO3 (io), 20 NC (io), 21 GND (power), 22 NC, 23 GPIO6 (io), 24 GPIO7 (io), 25 VDD18 (power), 26 GPIO8 (io), 27 VDD18 (power), 28 TM (io), 29 GPIO0 (io), 30 GPIO1 (io), 31 GND (power), 32 VDD18 (power)

## SG3030CM32.768k
designator OSC?
CODIGO DIGIKEY: *; FABRICANTE: *; FRECUENCIA: *; FOOTPRINT: *
pins: 1 Vio (io), 2 GND (io), 3 OUT (io), 4 VCC (io)

## SG8003CG52
designator OSC?
CODIGO DIGIKEY: *; FABRICANTE: *; FRECUENCIA: *; FOOTPRINT: *
pins: 1 OE (io), 2 GND (io), 3 OUT (io), 4 VCC (io)

## SGTL5000
designator U?
CODIGO FABRICANTE: SGTL5000XNLA3; FABRICANTE: FREESCALE; CODIGO DIGIKEY: SGTL5000XNLA3-ND
footprint QFN20_3x3 (SGTL5000)
pins: 0 GND (in), 1 HP_R (in), 2 HP_VGND (power), 3 VDDA (power), 4 HP_L (in), 5 VAG (power), 6 LINEOUT_R (out), 7 LINEOUT_L (out), 8 LINEIN_R (in), 9 LINEIN_L (in), 10 MIC (in), 11 MIC_BIAS (in), 12 VDDIO (power), 13 SYS_MCLK (hiz), 14 I2S_LRCLK (hiz), 15 I2S_SCLK (hiz), 16 I2S_DOUT (out), 17 I2S_DIN (in), 18 CTRL_DATA (io), 19 CTRL_CLK (hiz), 20 VDDD (power)

## Si7848BDP
designator Q?
N-Channel Power MOSFET; Note: Pin 2 is electrically connected to pin 4.; FABRICANTE: VISHAY; Published: 8-Jun-2000; LatestRevisionDate: 17-Jul-2002; LatestRevisionNote: Re-released for DXP Platform.; DatasheetDocument: PD-9.814; Publisher: Altium Limited; ComponentLink1Description: Manufacturer Link; ComponentLink1URL: http://www.irf.com/; PROVEEDOR: *
simulation model IRF1010 (Spice Subcircuit)
pins: 1 S (power), 2 D, 2 S (power), 3 S, 3 S (power), 4 G, 5 D (power), 6 D (power), 7 D (power), 8 D (power)

## SIM CONECTOR
designator U?  (value not drawn)
SIM CONECTOR CON SWITCH; FABRICANTE: GRADCOM; CODIGO FABRICANTE: CH03-BE060-0BR; DISTRIBUIDOR: RUTRONIK
footprint CH03-BE060-0BR (conector SIM GRADCOM)
footprint CH03-BE060-0BR (conector SIM GRADCOM)
pins: 1 SIMVCC (io), 2 SIMRST (io), 3 SIMCLK (io), 4 C5 (io), 5 C6 (io), 6 SIMIO (io), 7 SIMIN (io), 8 GND (io)

## SIM CONECTOR 2
designator U?  (value not drawn)
SIM CONECTOR CON SWITCH; DISTRIBUIDOR 2: *; CODIGO DIGIKEY: *; CODIGO FARNELL: *; CODIGO MOUSER: *
pins: 1 C1 (io), 2 C2 (io), 3 C3 (io), 4 C4 (io), 5 C5 (io), 6 C6 (io), 7 C7 (io), 8 C8 (io), 9 (io), 10 (io)
text: SIM_CARD

## SIM MICRO SOCKET
designator U?, comment 0091620062206175
CODIGO PRODUCTO: 0091620062206175; PROVEEDOR: *; CODIGO FARNELL: 9728473; PRECIO FARNELL 1: 1.2; CODIGO DIGIKEY: 478-4366-1-ND; PRECIO DIGIKEY 1: 1.12; PRECIO DIGIKEY 100: 0.698; PRECIO DIGIKEY 1100: 0.58163; PRECIO DIGIKEY 55000: 0.4752
pins: 1 VCC (power), 2 ~{RST} (io), 3 CLK (io), 4 CC4 (io), 5 GND (power), 6 VPP (io), 7 I/O (io), 8 CC8 (io)

## SIM READER
designator U?
CODIGO DIGIKEY: *; CODIGO FABRICANTE: *
pins: 0 M1 (power), 0 M2 (power), 1 VCC (power), 2 RST (io), 3 CLK (io), 4 reserved (io), 5 GND (power), 6 VPP (io), 7 I/O (io), 8 reserved (io), S1 SW1 (io), S2 SW2 (io)

## SIM SMD ETSI
designator U?
TARJETA SIM SMD; CÓDIGO FARNELL: *; CÓDIGO MOUSER: *; FABRICANTE: *; REF FABRICANTE: *; DISTRIBUIDOR 1: *; DISTRIBUIDOR 2: *
pins: 0 N.C., 1 SIMVSS (power), 2 NC, 3 SIMIO (io), 4 NC, 5 NC, 6 SIMCLK (in), 7 SIMRST (in), 8 SIMVDD (power)